# Altium schematic symbol library Sajad_Altium_Library.SchLib: 340 symbols (part 3 of 4)
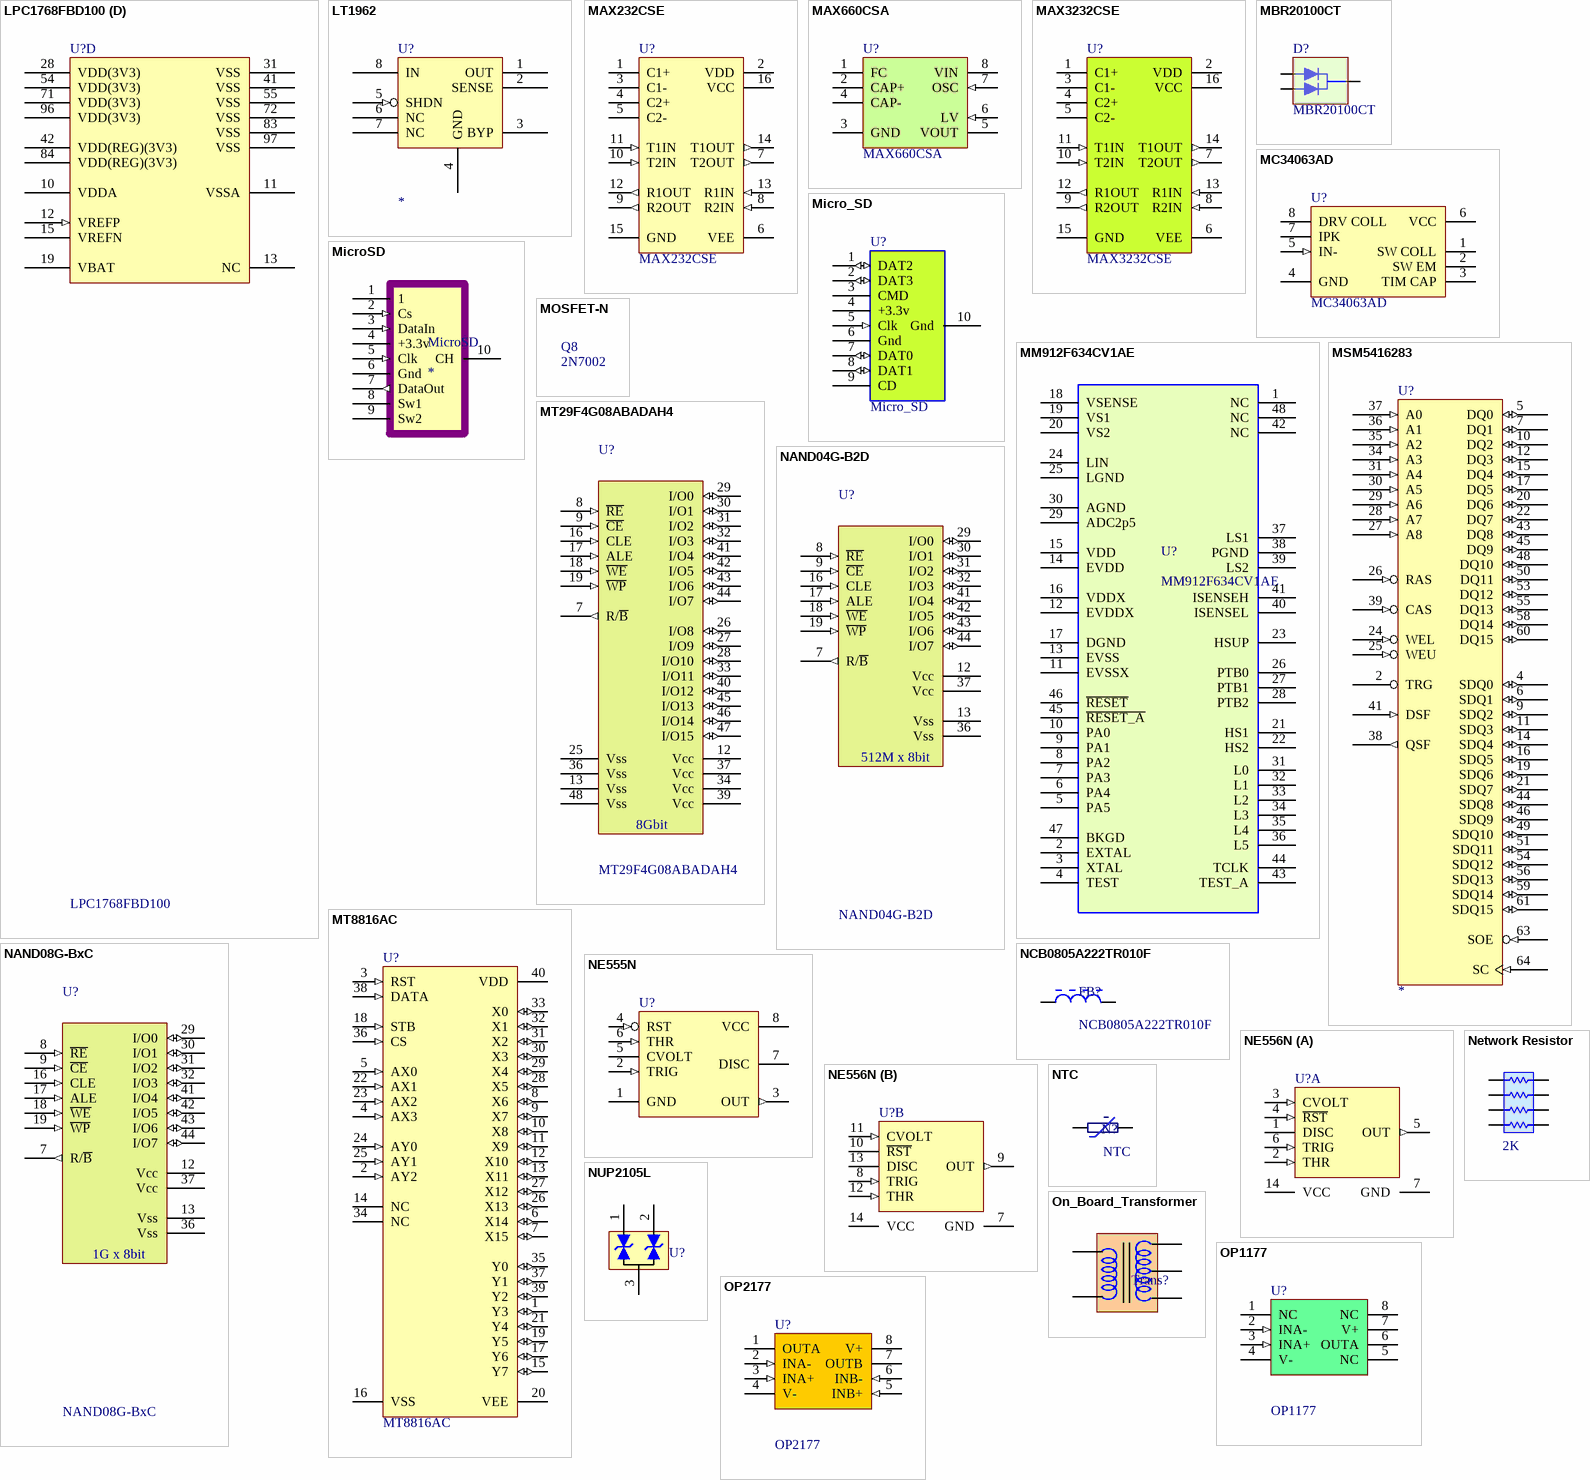
[diagram p19: symbols LPC1768FBD100 to OP2177]

## MT8816AC
designator U?
8 X 16 Analog Switch Array; Published: 8-Jun-2000; LatestRevisionDate: 17-Jul-2002; LatestRevisionNote: Re-released for DXP Platform.; DatasheetVersion: Issue 2 November 1988; PackageVersion: 1995; PackageReference: CDIP40; Publisher: Altium Limited; PackageDescription: DIP; 40 Leads; Row Spacing 15.24 mm; Pitch 2.54 mm; Code_JEDEC: MS-011-AC; ComponentLink1Description: Manufacturer Link; ComponentLink1URL: http://products.zarlink.com; ComponentLink2Description: Datasheet; ComponentLink2URL: http://assets.zarlink.com/DS/zarlink_MT8816_FEB_05.pdf
footprint DIP40 (DIP 40 pin)
pins: 1 Y3 (io), 2 AY2 (in), 3 RST (in), 4 AX3 (in), 5 AX0 (in), 6 X14 (io), 7 X15 (io), 8 X6 (io), 9 X7 (io), 10 X8 (io), 11 X9 (io), 12 X10 (io), 13 X11 (io), 14 NC, 15 Y7 (io), 16 VSS (power), 17 Y6 (io), 18 STB (in), 19 Y5 (io), 20 VEE (power), 21 Y4 (io), 22 AX1 (in), 23 AX2 (in), 24 AY0 (in), 25 AY1 (in), 26 X13 (io), 27 X12 (io), 28 X5 (io), 29 X4 (io), 30 X3 (io), 31 X2 (io), 32 X1 (io), 33 X0 (io), 34 NC, 35 Y0 (io), 36 CS (in), 37 Y1 (io), 38 DATA (in), 39 Y2 (io), 40 VDD (power)

## NAND04G-B2D
designator U?
4-Gbit, 8-Gbit, 2112-byte/1056-word page Nand Flash
footprint TSOP48 (Shrink Small Outline, Plastic, Thin; 48 Leads; Body Width 18.4 mm; Pitch 0.5 mm)
pins: 7 R/~{B} (out), 8 ~{RE} (in), 9 ~{CE} (in), 12 Vcc, 13 Vss, 16 CLE (in), 17 ALE (in), 18 ~{W}~{E} (in), 19 ~{W}~{P} (in), 29 I/O0 (io), 30 I/O1 (io), 31 I/O2 (io), 32 I/O3 (io), 36 Vss, 37 Vcc, 41 I/O4 (io), 42 I/O5 (io), 43 I/O6 (io), 44 I/O7 (io)
text: 512M x 8bit

## NAND08G-BxC
designator U?
8-Gbit, 2112-byte/1056-word page nand Flash
footprint TSOP48 (Shrink Small Outline, Plastic, Thin; 48 Leads; Body Width 18.4 mm; Pitch 0.5 mm)
pins: 7 R/~{B} (out), 8 ~{RE} (in), 9 ~{CE} (in), 12 Vcc, 13 Vss, 16 CLE (in), 17 ALE (in), 18 ~{W}~{E} (in), 19 ~{W}~{P} (in), 29 I/O0 (io), 30 I/O1 (io), 31 I/O2 (io), 32 I/O3 (io), 36 Vss, 37 Vcc, 41 I/O4 (io), 42 I/O5 (io), 43 I/O6 (io), 44 I/O7 (io)
text: 1G x 8bit

## NCB0805A222TR010F
designator FB?
Ferrite Chip Beads 2200ohm @ 100Mhz 0.75mOhm 100mA; Manufacturer: NIC Components; Website: http://www.findchips.com/avail?part=NCB0805A222TR010F
footprint 0805
pins: 1, 2 8

## NE555N
designator U?
General-Purpose Single Bipolar Timer; Published: 24-Aug-2001; LatestRevisionDate: 06-Jun-2005; LatestRevisionNote: Stylized 3D Model Added.; DatasheetVersion: Jul-1998; PackageReference: DIP8; Publisher: Altium Limited; PackageDescription: DIP; 8 Leads; Row Spacing 7.62 mm; Pitch 2.54 mm; Code_JEDEC: MO-001-AN; ComponentLink1Description: Manufacturer Link; ComponentLink1URL: http://www.st.com/; ComponentLink2Description: Datasheet; ComponentLink2URL: http://www.st.com/stonline/products/literature/ds/2182/ne555.pdf
footprint SO8
footprint DIP8 (DIP; 8 Leads; Row Spacing 7.62 mm; Pitch 2.54 mm)
pins: 1 GND (power), 2 TRIG (in), 3 OUT (out), 4 RST (in), 5 CVOLT, 6 THR (in), 7 DISC (oc), 8 VCC (power)

## NE556N
designator U?
General-Purpose Dual Bipolar Timer; Published: 24-Aug-2001; LatestRevisionDate: 06-Jun-2005; LatestRevisionNote: Stylized 3D Model Added.; DatasheetVersion: Jul-1998; PackageVersion: Jan-1997; PackageReference: DIP14; Publisher: Altium Limited; PackageDescription: DIP; 14 Leads; Row Spacing 7.62 mm; Pitch 2.54 mm; ComponentLink1Description: Manufacturer Link; ComponentLink1URL: http://www.st.com/; ComponentLink2Description: Datasheet; ComponentLink2URL: http://www.st.com/stonline/products/literature/ds/2183/ne556.pdf
footprint DIP14 (DIP; 14 Leads; Row Spacing 7.62 mm; Pitch 2.54 mm)
footprint SO14_M (SOIC, 14-Leads, Body 8.7x3.9mm, Pitch 1.27mm, IPC Low Density)
pins on every part: 7 GND (power), 14 VCC (power)
part A pins: 1 DISC (oc), 2 THR (in), 3 CVOLT (in), 4 ~{RST} (in), 5 OUT (out), 6 TRIG (in)
part B pins: 8 TRIG (in), 9 OUT (out), 10 ~{RST}, 11 CVOLT (in), 12 THR (in), 13 DISC (oc)

## Network Resistor
designator RN?, comment 2K
footprint Network Resistor 0603
pins: 1, 2, 3, 4, 5, 6, 7, 8

## NTC
designator N?
Published: 8-Jun-2000; LatestRevisionDate: 17-Jul-2002; LatestRevisionNote: Re-released for DXP Platform.; PackageReference: AXIAL-0.3; Publisher: Altium Limited
pins: 1, 2
text: -

## NUP2105L
designator U?  (value not drawn)
TVS Zener Diode
footprint SO-G3/C2.5
pins: 1, 2, 3
2 alternate drawings of the same symbol

## On_Board_Transformer
designator Trans?, comment Transformer  (value not drawn)
Inductor; Code_IEC: 1005; Published: 8-Jun-2000; LatestRevisionDate: 17-Jul-2002; LatestRevisionNote: Re-released for DXP Platform.; PackageReference: 0402-A; Publisher: Altium Limited; Code_JEITA: 0402
footprint Transformer (On Board Transformer)
pins: 1 (power), 5, 7, 8, 9

## OP1177
designator U?
Precision Low Noise, Low Input  Bias Current Operational Amplifiers; Link: http://javanelec.com/productsDetails.aspx?id=20666; Price: 38850 Rial
footprint SO8
pins: 1 NC, 2 INA- (in), 3 INA+ (in), 4 V- (power), 5 NC (power), 6 OUTA, 7 V+ (power), 8 NC (power)

## OP2177
designator U?
Precision Low Noise, Low Input  Bias Current Operational Amplifiers; Link: http://javanelec.com/productsDetails.aspx?id=20666; Price: 38850 Rial
footprint SO8
pins: 1 OUTA, 2 INA- (in), 3 INA+ (in), 4 V- (power), 5 INB+ (in), 6 INB- (in), 7 OUTB (power), 8 V+ (power)

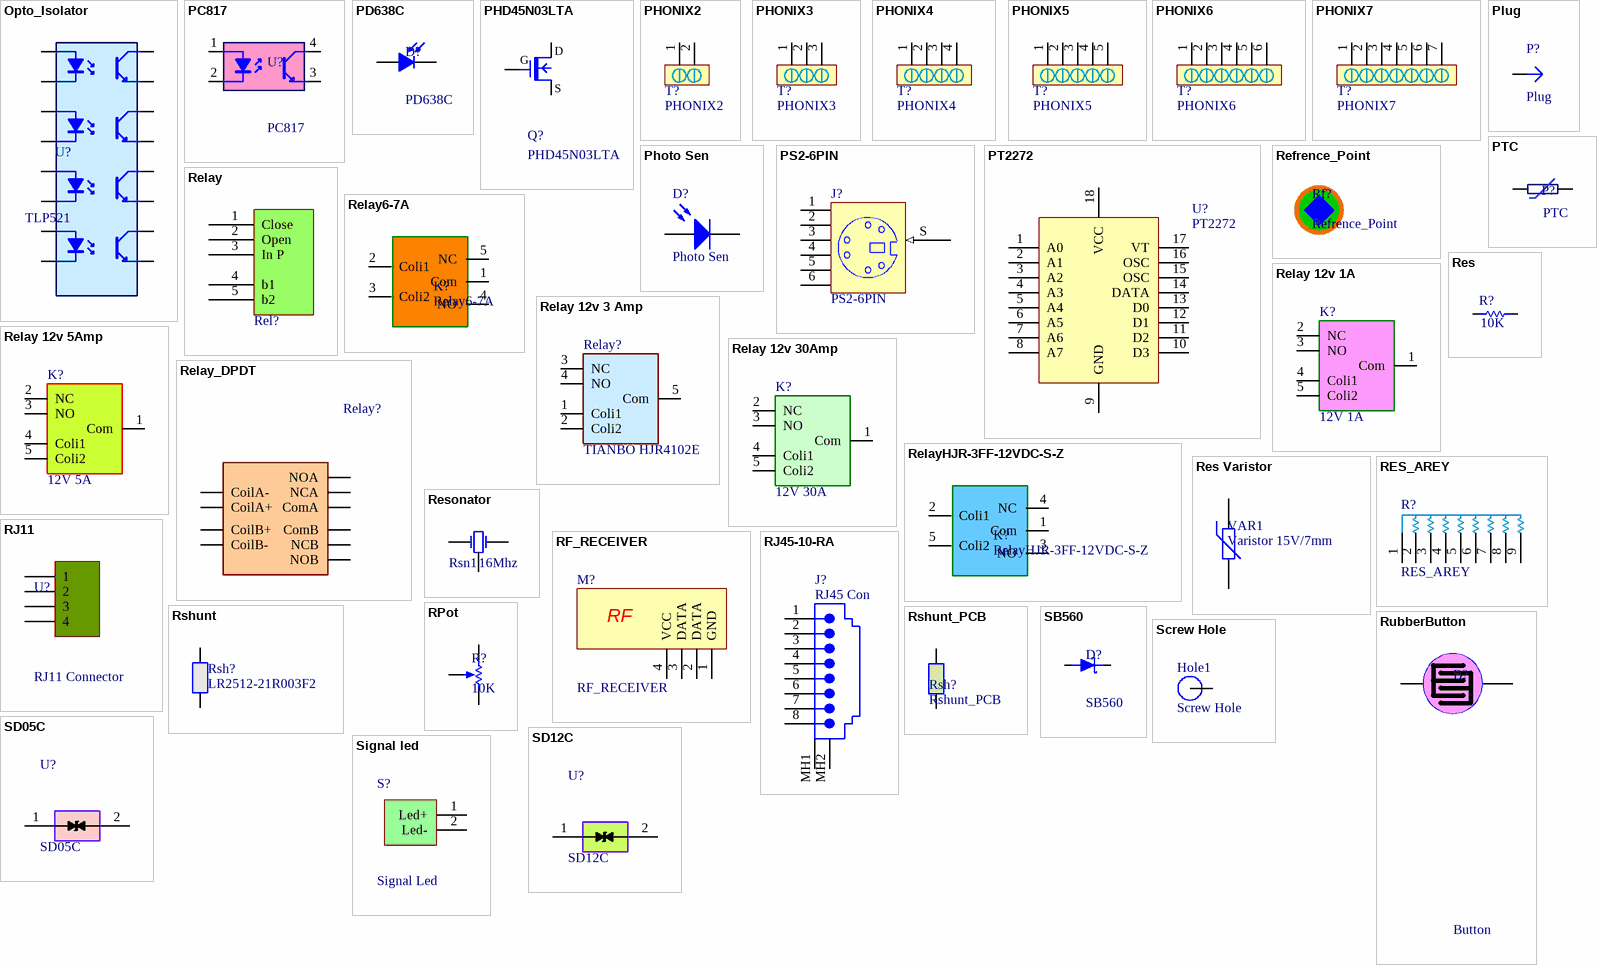
[diagram p11: symbols Opto_Isolator to Signal led]

## Opto_Isolator
designator U?, comment TLP521
Optoisolator
pins: 1 A "Anode", 2 K "Cathode", 3 A "Anode", 4 K "Cathode", 5 A "Anode", 6 K "Cathode", 7 A "Anode", 8 K "Cathode", 9 E "Emitter", 10 C "Collector", 11 E "Emitter", 12 C "Collector", 13 E "Emitter", 14 C "Collector", 15 E "Emitter", 16 C "Collector"

## PC817
designator U?
DIP 4pin General Purpose  Photocoupler
footprint DIP-4 (DIP; 4 Leads; Row Spacing 7.62 mm; Pitch 2.54 mm)
pins: 1 A "Anode", 2 K "Cathode", 3 E "Emitter", 4 C "Collector"

## PD638C
designator D?
2.75 ×5.25 mm Silicon PIN Photodiode
footprint PD638C (2.75 ×5.25 mm Silicon PIN Photodiode)
pins: 1 A, 2 K

## PHD45N03LTA
designator Q?
25 A N-channel enhancement mode field-effect transistor
footprint TO-252; pin to pad 2>4
pins: 1 G, 2 D, 3 S

## PHONIX2
designator T?
footprint PHONIX2
pins: 1, 2

## PHONIX3
designator T?
footprint PHONIX3
pins: 1, 2, 3

## PHONIX4
designator T?
footprint PHONIX4
pins: 1, 2, 3, 4

## PHONIX5
designator T?
footprint PHONIX5
pins: 1, 2, 3, 4, 5

## PHONIX6
designator T?
footprint PHONIX6
pins: 1, 2, 3, 4, 5, 6

## PHONIX7
designator T?
footprint PHONIX7
pins: 1, 2, 3, 4, 5, 6, 7

## Photo Sen
designator D?
Photosensitive Diode; Published: 24-Mar-1999; LatestRevisionDate: 17-Jul-2002; LatestRevisionNote: Re-released for DXP Platform.; PackageReference: PIN2; Publisher: Altium Limited
footprint PIN2 (Photosensitive Diode; 2 Leads)
pins: 1 A, 2 K

## Plug
designator P?
LatestRevisionDate: 17-Jul-2002; LatestRevisionNote: Re-released for DXP Platform.; Publisher: Altium Limited
pins: 1

## PS2-6PIN
designator J?
6 Pin Through Hole PS2 Socket (Kycon P/N); Published: 17-Dec-2003; Publisher: Altium Limited; ComponentLink1Description: Manufacturer Link; ComponentLink1URL: http://www.oupiin.com/prodindx.html#Headers
footprint PS2-6PIN (PS2 Socket, 6 Pin, Through Hole)
pins: 1, 2, 3, 4, 5, 6, S (in)

## PT2272
designator U?
footprint DIP18
pins: 1 A0, 2 A1, 3 A2, 4 A3, 5 A4, 6 A5, 7 A6, 8 A7, 9 GND, 10 D3, 11 D2, 12 D1, 13 D0, 14 DATA, 15 OSC, 16 OSC, 17 VT, 18 VCC

## PTC
designator P?
Published: 8-Jun-2000; LatestRevisionDate: 17-Jul-2002; LatestRevisionNote: Re-released for DXP Platform.; PackageReference: AXIAL-0.3; Publisher: Altium Limited
footprint PTC
pins: 1, 2

## Refrence_Point
designator Rf?  (no BOM)
Refrence point for assembling pcb
footprint Refrence_Point (Refrence Point for Assembling Pcb)
footprint Refrence_Point 2 (Refrence Point for Assembling Pcb)

## Relay
designator Rel?, comment G2RL1E  (value not drawn)
Omron G2RL1E 12v 16A Relay
footprint Relay
pins: 1 Close, 2 Open, 3 In P, 4 b1, 5 b2

## Relay6-7A
designator K?
Single-Pole Dual-Throw Relay
footprint Relay Mini Milon
pins: 1 Com (power), 2 Coli1 (power), 3 Coli2 (power), 4 NO (power), 5 NC (power)

## Relay 12v 1A
designator K?, comment 12V 1A
12V 1A RELAY
footprint RELAY_12_CMD
pins: 1 Com (power), 2 NC (power), 3 NO (power), 4 Coli1 (power), 5 Coli2 (power)

## Relay 12v 3 Amp
designator Relay?, comment TIANBO HJR4102E
TIANBO 3A 12V RELAY
footprint TIANBO HJR4102E (TIANBO HJR4102E 12 v 3 A relay)
pins: 1 Coli1 (power), 2 Coli2 (power), 3 NC (power), 4 NO (power), 5 Com (power)

## Relay 12v 5Amp
designator K?, comment 12V 5A
12V 5A RELAY
footprint RELAY_12_10
pins: 1 Com (power), 2 NC (power), 3 NO (power), 4 Coli1 (power), 5 Coli2 (power)

## Relay 12v 30Amp
designator K?, comment 12V 30A
12V 30A RELAY
footprint RELAY_12_30
pins: 1 Com (power), 2 NC (power), 3 NO (power), 4 Coli1 (power), 5 Coli2 (power)

## Relay_DPDT
designator Relay?, comment JQC-16F  (value not drawn)
footprint RELAY_DOUBLE (JQC-16F)
pins: 1 CoilA+, 2 CoilA-, 3 NOA (power), 4 NCA (power), 5 ComA (power), 6 CoilB+, 7 CoilB-, 8 NOB (power), 9 NCB (power), 10 ComB (power)

## RelayHJR-3FF-12VDC-S-Z
designator K?
HJR-3FF-12VDC-S-Z
footprint HJR-3FF-12VDC-S-Z
pins: 1 Com (power), 2 Coli1 (power), 3 NO (power), 4 NC (power), 5 Coli2 (power)

## Res
designator R?, comment 10K
Resistor; Published: 8-Jun-2000; LatestRevisionDate: 17-Jul-2002; LatestRevisionNote: Re-released for DXP Platform.; PackageReference: AXIAL-0.3; Publisher: Altium Limited
footprint 0805
footprint 0603
footprint 1206_Res (1206 footprint)
footprint 0805 - big
footprint AXIAL-0.4 res (Axial Device, Thru-Hole; 2 Leads; 0.4 in Pin Spacing)
footprint RES20-16.5X6.5 (Resistor, Axial; Body 16.5 x 6.5 mm (LxDia. max), Lead Dia. 0.85 mm (max))
footprint 2512 (Footprint not found)
footprint 1225
footprint RES20 (Resistor, Axial; Body 16.5 x 6.5 mm (LxDia. max), Lead Dia. 0.85 mm (max))
footprint 0603 -sm
footprint AXIAL_KHAM-1W
footprint 0805_Medium
footprint RES_5W
pins: 1, 2

## Res Varistor
designator VAR1, comment Varistor 15V/7mm
Varistor (Voltage-Sensitive Resistor); Published: 24-Mar-1999; LatestRevisionDate: 29-May-2009; LatestRevisionNote: IPC-7351 Footprint Added.; PackageVersion: Mar-2003; PackageReference: 6-0805; Publisher: Altium Limited; PackageDescription: Chip Resistor 0805 Case Size; Code_IPC: RESC2012
footprint NTC0.3/.7
footprint 6-0805_L (Chip Resistor, Body 2.0x1.2mm, IPC High Density)
footprint 6-0805_M (Chip Resistor, Body 2.0x1.2mm, IPC Low Density)
pins: 1, 2

## RES_AREY
designator R?
footprint SIP9
pins: 1, 2, 3, 4, 5, 6, 7, 8, 9

## Resonator
designator Rsn1, comment 16Mhz
footprint RESONATOR
pins: 1 OSC1, 2 Gnd, 3 OSC2

## RF_RECEIVER
designator M?
footprint RF_RX
footprint RF_RX2
pins: 1 GND, 2 DATA, 3 DATA, 4 VCC
text: RF

## RJ11
designator U?, comment RJ11 Connector
RJ11; LatestRevisionDate: 17-Jul-2002; LatestRevisionNote: Re-released for DXP Platform.; Publisher: Altium Limited
footprint RJ11 (RJ11 CONNECTOR)
pins: 1, 2, 3, 4

## RJ45-10-RA
designator J?, comment RJ45 Con
Right Angle, Standard Profile, External Shield PCB Jack; Design Item Id: CON-RA-RJ45-95122-2881
footprint RJ-45 Connector (LAN Conector)
pins: 1, 2, 3, 4, 5, 6, 7, 8, MH1 Shield, MH2 Shield

## RPot
designator R?, comment 10K
Potentiometer
footprint SMD Pot (SMD Potentiometer)
footprint MultiTurn Pot (MultiTurn Potentiometer)
footprint Connector1x3 (Connector; Header; 3 Position)
footprint Potentiometer (potentiometer standing)
footprint POT4MM-2
pins: 1, 2, 3

## Rshunt
designator Rsh?, comment LR2512-21R003F2
Published: 8-Jun-2000; LatestRevisionDate: 17-Jul-2002; LatestRevisionNote: Re-released for DXP Platform.; PackageReference: AXIAL-0.3; Publisher: Altium Limited
footprint LR2512-21R003F2
pins: 1, 2

## Rshunt_PCB
designator Rsh?
Value: 3mOhm
footprint PCB_Shunt (3miliOhm)
pins: 1, 2

## RubberButton
designator B?, comment Button
Rubber button
footprint Button_Pad
pins: 1, 2

## SB560
designator D?
5 Amp Schottky Diode
footprint DO-201AD (Diode, Axial; Body 9.5 x 5.6 mm (LxDia. max), Lead Dia. 1.32 mm (max))
pins: 1 A, 2 K

## Screw Hole
designator Hole1  (no BOM)
footprint Hole_3mm-5mm
footprint Hole_4mm-5.5mm
pins: 1
2 alternate drawings of the same symbol

## SD05C
designator U?
Single Line TVS Diode for ESD  Protection
footprint 0805_MediumCap
pins: 1 "Speed", 2 "Speed"

## SD12C
designator U?
Single Line TVS Diode for ESD  Protection
footprint 0805_MediumCap
pins: 1 "Speed", 2 "Speed"

## Signal led
designator S?, comment Signal Led
footprint Signal LED (Signal_led)
pins: 1 Led+, 2 Led-

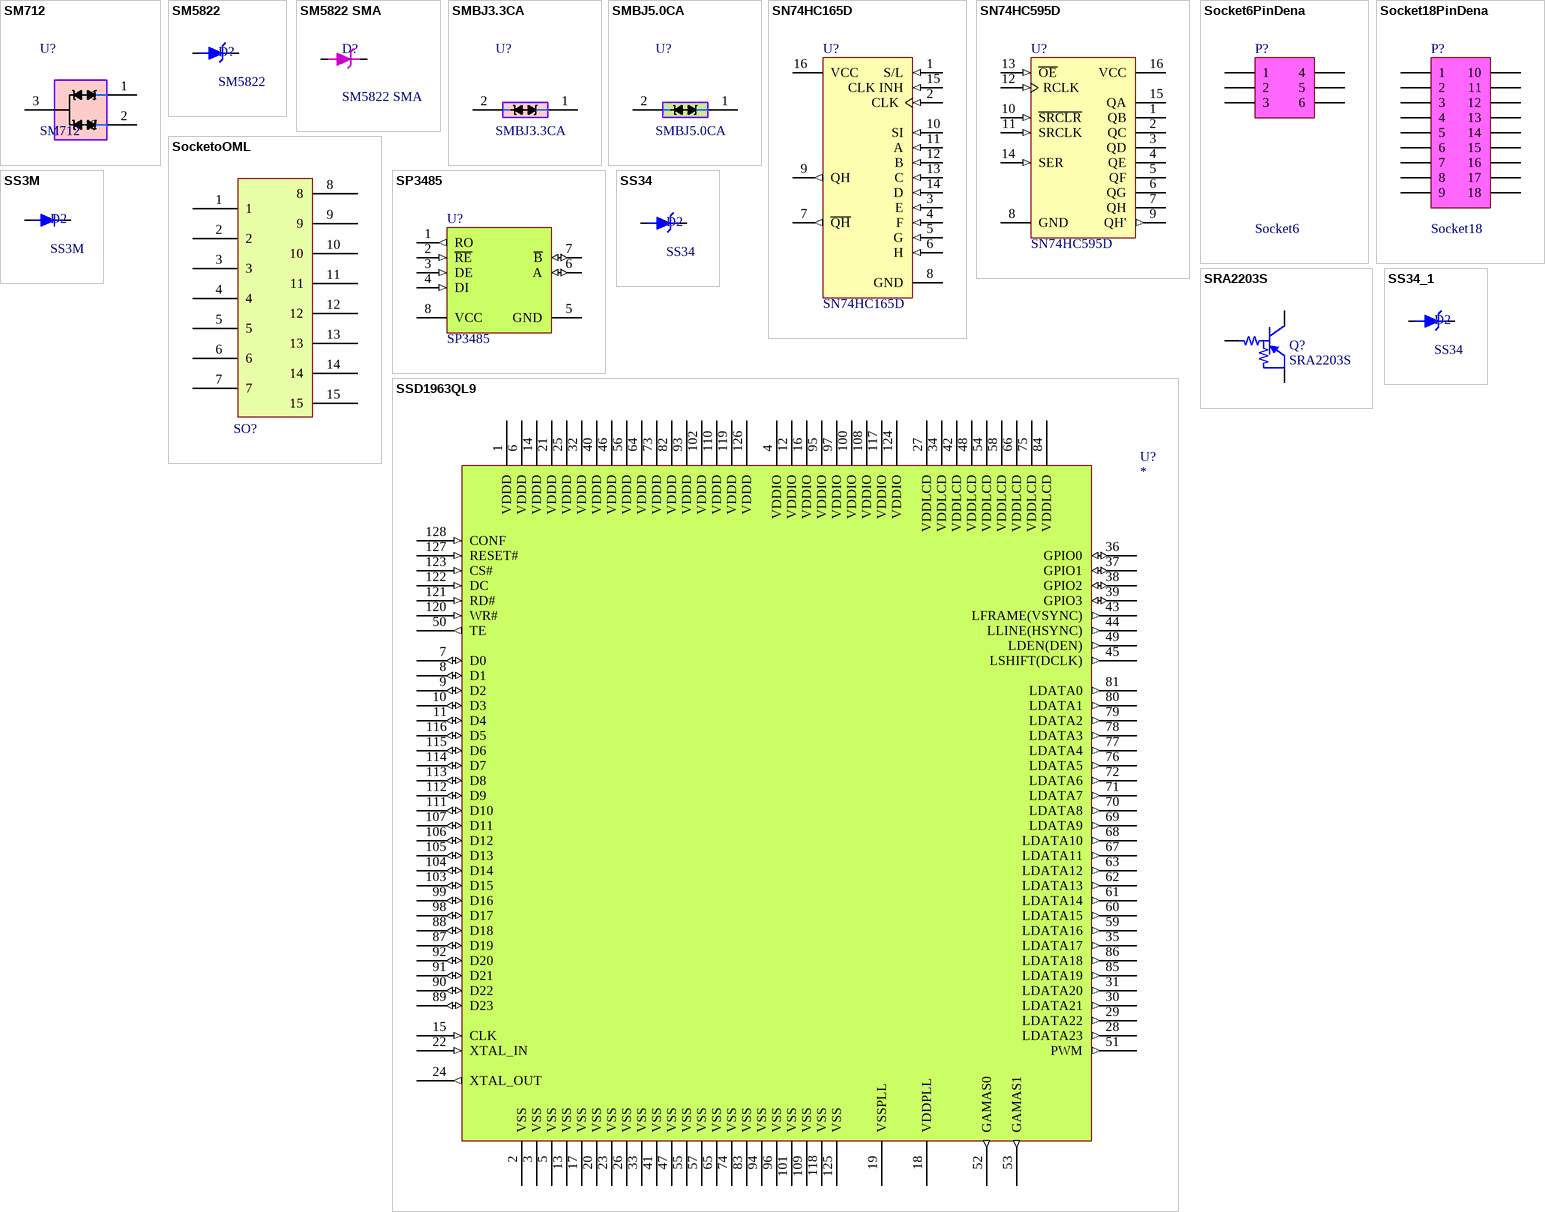
[diagram p12: symbols SM712 to SSD1963QL9]

## SM712
designator U?
TVS Diode for RS485; Link: http://javanelec.com/productsDetails.aspx?id=1540
footprint SOT23_
pins: 1 "Speed", 2 "Speed", 3 "Speed"

## SM5822
designator D?
3A Schottkey diode 40V
pins: 1 A, 2 K

## SM5822 SMA
designator D?
3 Amp Schottky Rectifier 40V; Link: http://www.javanelec.com/Shops/Index?searchFilter=ss34
footprint DO-214AA (DO-214AA (SMB))
pins: 1 A, 2 K

## SMBJ3.3CA
designator U?
TVS Diode for 3.3v; Link: javanElectronic; Price: 2625 Rial
footprint DO-214AC (1N4001-7 SMD DIODE)
pins: 1 "Speed", 2 "Speed"

## SMBJ5.0CA
designator U?
TVS Diode for 5v; Link: javanElectronic; Price: 2625 Rial
footprint DO-214AC (1N4001-7 SMD DIODE)
pins: 1 "Speed", 2 "Speed"

## SN74HC165D
designator U?
8-Bit Parallel-Load Shift Register; Published: 8-Jun-2000; LatestRevisionDate: 13-Apr-2006; LatestRevisionNote: IPC-7351 Footprint Added.; DatasheetVersion: May-1997; PackageVersion: Jan-1998; PackageReference: D016; Publisher: Altium Limited; PackageDescription: 16-Pin Small Outline Integrated Circuit 1.27 mm Pitch; Code_IPC: SOIC127P600-16; ComponentLink1Description: Manufacturer Link; ComponentLink1URL: http://www.ti.com/; ComponentLink2Description: Datasheet; ComponentLink2URL: http://www-s.ti.com/sc/ds/sn74hc165.pdf
footprint SO16
pins: 1 S/L (in), 2 CLK (in), 3 E (in), 4 F (in), 5 G (in), 6 H (in), 7 ~{QH} (out), 8 GND (power), 9 QH (out), 10 SI (in), 11 A (in), 12 B (in), 13 C (in), 14 D (in), 15 CLK INH (in), 16 VCC (power)

## SN74HC595D
designator U?
8-Bit Shift Register with 3-State Output Registers; Published: 8-Jun-2000; LatestRevisionDate: 13-Apr-2006; LatestRevisionNote: IPC-7351 Footprint Added.; DatasheetVersion: May-1997; PackageVersion: Jan-1998; PackageReference: D016; Publisher: Altium Limited; PackageDescription: 16-Pin Small Outline Integrated Circuit 1.27 mm Pitch; Code_IPC: SOIC127P600-16; ComponentLink1Description: Manufacturer Link; ComponentLink1URL: http://www.ti.com/; ComponentLink2Description: Datasheet; ComponentLink2URL: http://www-s.ti.com/sc/ds/sn74hc595.pdf
footprint SO16
pins: 1 QB (hiz), 2 QC (hiz), 3 QD (hiz), 4 QE (hiz), 5 QF (hiz), 6 QG (hiz), 7 QH (hiz), 8 GND (power), 9 QH' (out), 10 ~{SRCLR} (in), 11 SRCLK (in), 12 RCLK (in), 13 ~{OE} (in), 14 SER (in), 15 QA (hiz), 16 VCC (power)

## Socket6PinDena
designator P?, comment Socket6
Socket 6 Pin for Dena & Samand
footprint Socket6Pin (for Dena & Samand Mirror)
pins: 1, 2, 3, 4, 5, 6

## Socket18PinDena
designator P?, comment Socket18
Socket 18 Pin for Dena & Samand
footprint Socket18Pin (for Dena & Samand Door)
pins: 1, 2, 3, 4, 5, 6, 7, 8, 9, 10, 11, 12, 13, 14, 15, 16, 17, 18

## SocketoOML
designator SO?, comment Socket  (value not drawn)
footprint SocketoOML
pins: 1, 2, 3, 4, 5, 6, 7, 8, 9, 10, 11, 12, 13, 14, 15

## SP3485
designator U?
+3.3V Low Power Half-Duplex RS-485   Transceiver with 10Mbps Data Rate; PartNumber: DS485M; Manufacturer: National Semiconductor; PackageTopMarking: NSZXTT*DS485*M; PowerWise: N; CompType: Interface IC; Published: 4-Dec-2008; DatasheetVersion: Jul-1998; PackageVersion: revM, May-2009; PackageReference: M08A; Publisher: Altium Limited; PackageDescription: SOIC Narrow, 4.9 x 3.9 x 1.45mm, 8 Lead, 1.27mm Pitch; Supplier 1: Farnell; Supplier Part Number 1: 9490078; RoHS: N; PinCount: 8; Code_JEDEC: MS-012-AA; Code_IPC: SOIC127P600-8; ComponentLink1Description: DS485 Datasheet; ComponentLink1URL: http://www.national.com/ds/DS/DS485.pdf; ComponentLink2Description: DS485 Web Page; ComponentLink2URL: http://www.national.com/pf/DS/DS485.html; ComponentLink3Description: M08A Package Page; ComponentLink3URL: http://www.national.com/packaging/folders/m08a.html
footprint SO8
pins: 1 RO (out), 2 ~{RE} (in), 3 DE (in), 4 DI (in), 5 GND (power), 6 A (io), 7 ~{B} (io), 8 VCC (power)

## SRA2203S
designator Q?
PNP Silicon Transistor With built-in bias resistors
footprint SOT23_
pins: 1 B, 2 E, 3 C

## SS3M
designator D2
3A Schottkey diode
footprint DIODE - SMC
pins: 1 A, 2 K

## SS34
designator D2
3A Schottkey diode
footprint DIODE - SMC
pins: 1 A, 2 K

## SS34_1
designator D2, comment SS34
3A Schottkey diode
footprint DIODE - SMC
pins: 1 A, 2 K

## SSD1963QL9
designator U?
SSD1963QL9
footprint LQFP128
pins: 1 VDDD, 2 VSS, 3 VSS, 4 VDDIO, 5 VSS, 6 VDDD, 7 D0 (io), 8 D1 (io), 9 D2 (io), 10 D3 (io), 11 D4 (io), 12 VDDIO, 13 VSS, 14 VDDD, 15 CLK (in), 16 VDDIO, 17 VSS, 18 VDDPLL, 19 VSSPLL, 20 VSS, 21 VDDD, 22 XTAL_IN (in), 23 VSS, 24 XTAL_OUT (out), 25 VDDD, 26 VSS, 27 VDDLCD, 28 LDATA23 (out), 29 LDATA22 (out), 30 LDATA21 (out), 31 LDATA20 (out), 32 VDDD, 33 VSS, 34 VDDLCD, 35 LDATA17 (out), 36 GPIO0 (io), 37 GPIO1 (io), 38 GPIO2 (io), 39 GPIO3 (io), 40 VDDD, 41 VSS, 42 VDDLCD, 43 LFRAME(VSYNC) (out), 44 LLINE(HSYNC) (out), 45 LSHIFT(DCLK) (out), 46 VDDD, 47 VSS, 48 VDDLCD, 49 LDEN(DEN) (out), 50 TE (out), 51 PWM (out), 52 GAMAS0 (out), 53 GAMAS1 (out), 54 VDDLCD, 55 VSS, 56 VDDD, 57 VSS, 58 VDDLCD, 59 LDATA16 (out), 60 LDATA15 (out), 61 LDATA14 (out), 62 LDATA13 (out), 63 LDATA12 (out), 64 VDDD, 65 VSS, 66 VDDLCD, 67 LDATA11 (out), 68 LDATA10 (out), 69 LDATA9 (out), 70 LDATA8 (out), 71 LDATA7 (out), 72 LDATA6 (out), 73 VDDD, 74 VSS, 75 VDDLCD, 76 LDATA5 (out), 77 LDATA4 (out), 78 LDATA3 (out), 79 LDATA2 (out), 80 LDATA1 (out), 81 LDATA0 (out), 82 VDDD, 83 VSS, 84 VDDLCD, 85 LDATA19 (out), 86 LDATA18 (out), 87 D19 (io), 88 D18 (io), 89 D23 (io), 90 D22 (io), 91 D21 (io), 92 D20 (io), 93 VDDD, 94 VSS, 95 VDDIO, 96 VSS, 97 VDDIO, 98 D17 (io), 99 D16 (io), 100 VDDIO, 101 VSS, 102 VDDD, 103 D15 (io), 104 D14 (io), 105 D13 (io), 106 D12 (io), 107 D11 (io), 108 VDDIO, 109 VSS, 110 VDDD, 111 D10 (io), 112 D9 (io), 113 D8 (io), 114 D7 (io), 115 D6 (io), 116 D5 (io), 117 VDDIO, 118 VSS, 119 VDDD, 120 WR# (in), 121 RD# (in), 122 DC (in), 123 CS# (in), 124 VDDIO, 125 VSS, 126 VDDD, 127 RESET# (in), 128 CONF (in)

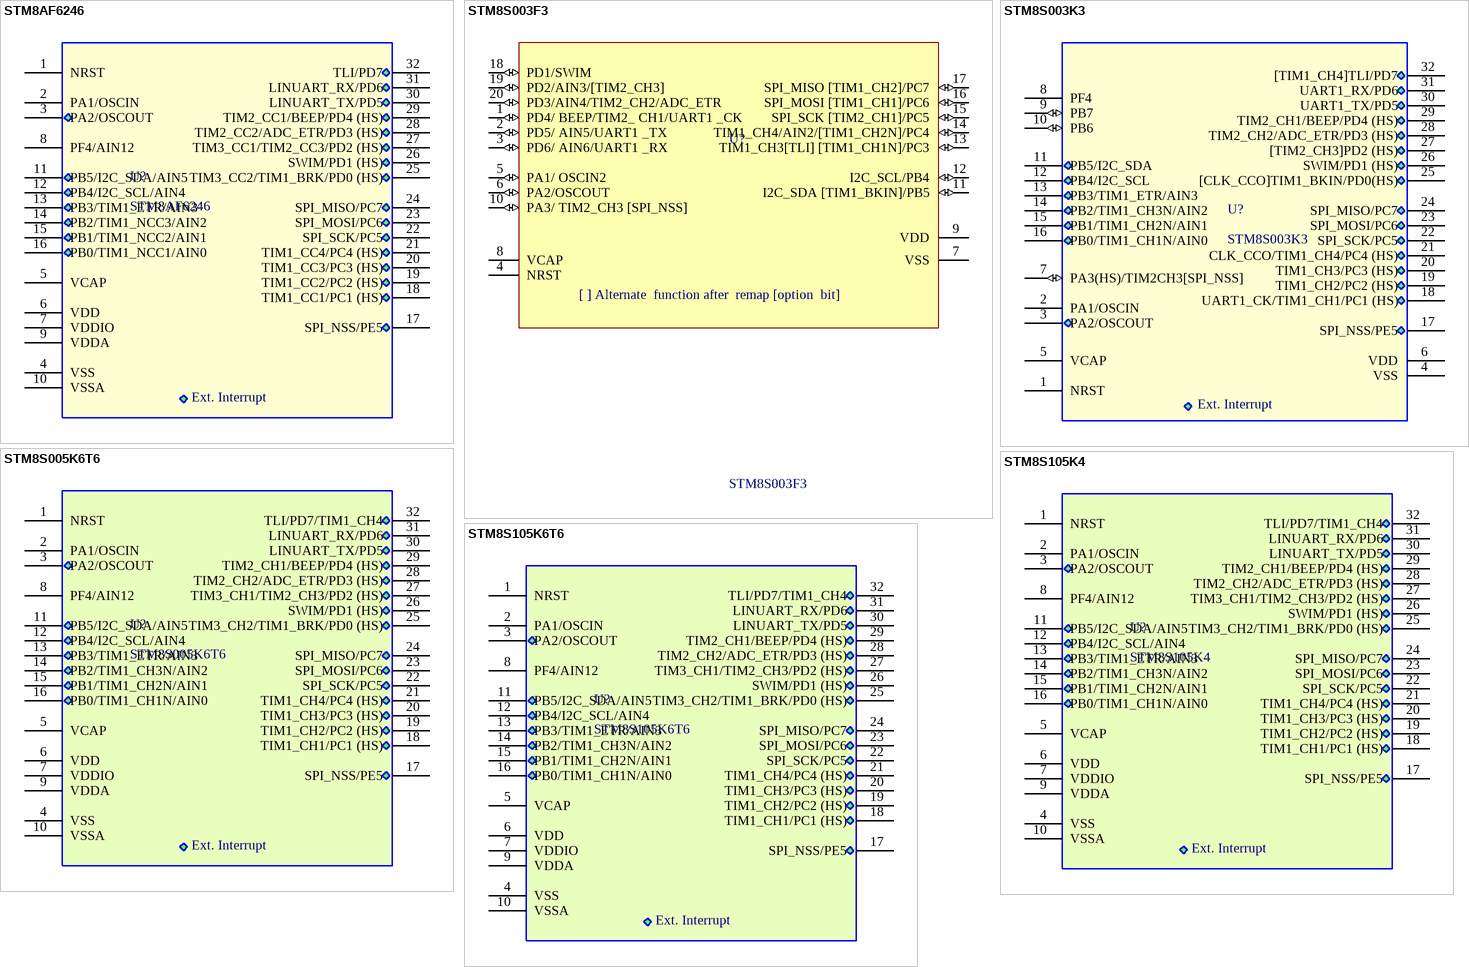
[diagram p13: symbols STM8AF6246 to STM8S105K6T6]

## STM8AF6246
designator U?
footprint LQFP32 (32-Pin Thin Quad Flat Pack 0.8 mm Pitch)
pins: 1 NRST, 2 PA1/OSCIN, 3 PA2/OSCOUT, 4 VSS, 5 VCAP, 6 VDD, 7 VDDIO, 8 PF4/AIN12, 9 VDDA, 10 VSSA, 11 PB5/I2C_SDA/AIN5, 12 PB4/I2C_SCL/AIN4, 13 PB3/TIM1_ETR/AIN3, 14 PB2/TIM1_NCC3/AIN2, 15 PB1/TIM1_NCC2/AIN1, 16 PB0/TIM1_NCC1/AIN0, 17 SPI_NSS/PE5, 18 TIM1_CC1/PC1 (HS), 19 TIM1_CC2/PC2 (HS), 20 TIM1_CC3/PC3 (HS), 21 TIM1_CC4/PC4 (HS), 22 SPI_SCK/PC5, 23 SPI_MOSI/PC6, 24 SPI_MISO/PC7, 25 TIM3_CC2/TIM1_BRK/PD0 (HS), 26 SWIM/PD1 (HS), 27 TIM3_CC1/TIM2_CC3/PD2 (HS), 28 TIM2_CC2/ADC_ETR/PD3 (HS), 29 TIM2_CC1/BEEP/PD4 (HS), 30 LINUART_TX/PD5, 31 LINUART_RX/PD6, 32 TLI/PD7
text: Ext. Interrupt

## STM8S003F3
designator U?
8-Bit ST Microcontroller with 8K Bytes Flash
footprint TSSOP 20 (20-pin, 4.40 mm body, 0.65 mm pitch)
pins: 1 PD4/ BEEP/TIM2_ CH1/UART1 _CK (io), 2 PD5/ AIN5/UART1 _TX (io), 3 PD6/ AIN6/UART1 _RX (io), 4 NRST, 5 PA1/ OSCIN2 (io), 6 PA2/OSCOUT (io), 7 VSS, 8 VCAP, 9 VDD, 10 PA3/ TIM2_CH3 [SPI_NSS] (io), 11 I2C_SDA [TIM1_BKIN]/PB5 (io), 12 I2C_SCL/PB4 (io), 13 TIM1_CH3[TLI] [TIM1_CH1N]/PC3 (io), 14 TIM1_CH4/AIN2/[TIM1_CH2N]/PC4 (io), 15 SPI_SCK [TIM2_CH1]/PC5 (io), 16 SPI_MOSI [TIM1_CH1]/PC6 (io), 17 SPI_MISO [TIM1_CH2]/PC7 (io), 18 PD1/SWIM (io), 19 PD2/AIN3/[TIM2_CH3] (io), 20 PD3/AIN4/TIM2_CH2/ADC_ETR (io)
text: [ ] Alternate  function after  remap [option  bit]

## STM8S003K3
designator U?
Value line, 16 MHz STM8S 8-bit MCU, 8 Kbytes Flash, 128 bytes  data EEPROM, 10-bit ADC, 3 timers, UART, SPI, I2C
footprint LQFP32 (32-Pin Thin Quad Flat Pack 0.8 mm Pitch)
pins: 1 NRST, 2 PA1/OSCIN, 3 PA2/OSCOUT, 4 VSS, 5 VCAP, 6 VDD, 7 PA3(HS)/TIM2CH3[SPI_NSS] (io), 8 PF4, 9 PB7 (io), 10 PB6 (io), 11 PB5/I2C_SDA, 12 PB4/I2C_SCL, 13 PB3/TIM1_ETR/AIN3, 14 PB2/TIM1_CH3N/AIN2, 15 PB1/TIM1_CH2N/AIN1, 16 PB0/TIM1_CH1N/AIN0, 17 SPI_NSS/PE5, 18 UART1_CK/TIM1_CH1/PC1 (HS), 19 TIM1_CH2/PC2 (HS), 20 TIM1_CH3/PC3 (HS), 21 CLK_CCO/TIM1_CH4/PC4 (HS), 22 SPI_SCK/PC5, 23 SPI_MOSI/PC6, 24 SPI_MISO/PC7, 25 [CLK_CCO]TIM1_BKIN/PD0(HS), 26 SWIM/PD1 (HS), 27 [TIM2_CH3]PD2 (HS), 28 TIM2_CH2/ADC_ETR/PD3 (HS), 29 TIM2_CH1/BEEP/PD4 (HS), 30 UART1_TX/PD5, 31 UART1_RX/PD6, 32 [TIM1_CH4]TLI/PD7
text: Ext. Interrupt

## STM8S005K6T6
designator U?
MCU 8-bit 32KB Flash 16 MHz STM8 LQFP32; FindsChip.com: http://www.findchips.com/search/STM8S005k6t6; Price: 0.7$
footprint LQFP32 (32-Pin Thin Quad Flat Pack 0.8 mm Pitch)
pins: 1 NRST, 2 PA1/OSCIN, 3 PA2/OSCOUT, 4 VSS, 5 VCAP, 6 VDD, 7 VDDIO, 8 PF4/AIN12, 9 VDDA, 10 VSSA, 11 PB5/I2C_SDA/AIN5, 12 PB4/I2C_SCL/AIN4, 13 PB3/TIM1_ETR/AIN3, 14 PB2/TIM1_CH3N/AIN2, 15 PB1/TIM1_CH2N/AIN1, 16 PB0/TIM1_CH1N/AIN0, 17 SPI_NSS/PE5, 18 TIM1_CH1/PC1 (HS), 19 TIM1_CH2/PC2 (HS), 20 TIM1_CH3/PC3 (HS), 21 TIM1_CH4/PC4 (HS), 22 SPI_SCK/PC5, 23 SPI_MOSI/PC6, 24 SPI_MISO/PC7, 25 TIM3_CH2/TIM1_BRK/PD0 (HS), 26 SWIM/PD1 (HS), 27 TIM3_CH1/TIM2_CH3/PD2 (HS), 28 TIM2_CH2/ADC_ETR/PD3 (HS), 29 TIM2_CH1/BEEP/PD4 (HS), 30 LINUART_TX/PD5, 31 LINUART_RX/PD6, 32 TLI/PD7/TIM1_CH4
text: Ext. Interrupt

## STM8S105K4
designator U?
MCU 8-bit 16KB Flash 16 MHz STM8 LQFP32 EEPROM; Javan Electronic: http://www.kavirelectronic.ir/eshop/%D9%85%DB%8C%DA%A9%D8%B1%D9%88%DA%A9%D9%86%D8%AA%D8%B1%D9%84%D8%B1-stm8/1200232--stm8s105k4t6c-.html; Price: 3900 toman; FindsChip Link: http://www.findchips.com/search/STM8S105K4T6C
footprint LQFP32 (32-Pin Thin Quad Flat Pack 0.8 mm Pitch)
pins: 1 NRST, 2 PA1/OSCIN, 3 PA2/OSCOUT, 4 VSS, 5 VCAP, 6 VDD, 7 VDDIO, 8 PF4/AIN12, 9 VDDA, 10 VSSA, 11 PB5/I2C_SDA/AIN5, 12 PB4/I2C_SCL/AIN4, 13 PB3/TIM1_ETR/AIN3, 14 PB2/TIM1_CH3N/AIN2, 15 PB1/TIM1_CH2N/AIN1, 16 PB0/TIM1_CH1N/AIN0, 17 SPI_NSS/PE5, 18 TIM1_CH1/PC1 (HS), 19 TIM1_CH2/PC2 (HS), 20 TIM1_CH3/PC3 (HS), 21 TIM1_CH4/PC4 (HS), 22 SPI_SCK/PC5, 23 SPI_MOSI/PC6, 24 SPI_MISO/PC7, 25 TIM3_CH2/TIM1_BRK/PD0 (HS), 26 SWIM/PD1 (HS), 27 TIM3_CH1/TIM2_CH3/PD2 (HS), 28 TIM2_CH2/ADC_ETR/PD3 (HS), 29 TIM2_CH1/BEEP/PD4 (HS), 30 LINUART_TX/PD5, 31 LINUART_RX/PD6, 32 TLI/PD7/TIM1_CH4
text: Ext. Interrupt

## STM8S105K6T6
designator U?
MCU 8-bit 32KB Flash 16 MHz STM8 LQFP32 EEPROM
footprint LQFP32 (32-Pin Thin Quad Flat Pack 0.8 mm Pitch)
pins: 1 NRST, 2 PA1/OSCIN, 3 PA2/OSCOUT, 4 VSS, 5 VCAP, 6 VDD, 7 VDDIO, 8 PF4/AIN12, 9 VDDA, 10 VSSA, 11 PB5/I2C_SDA/AIN5, 12 PB4/I2C_SCL/AIN4, 13 PB3/TIM1_ETR/AIN3, 14 PB2/TIM1_CH3N/AIN2, 15 PB1/TIM1_CH2N/AIN1, 16 PB0/TIM1_CH1N/AIN0, 17 SPI_NSS/PE5, 18 TIM1_CH1/PC1 (HS), 19 TIM1_CH2/PC2 (HS), 20 TIM1_CH3/PC3 (HS), 21 TIM1_CH4/PC4 (HS), 22 SPI_SCK/PC5, 23 SPI_MOSI/PC6, 24 SPI_MISO/PC7, 25 TIM3_CH2/TIM1_BRK/PD0 (HS), 26 SWIM/PD1 (HS), 27 TIM3_CH1/TIM2_CH3/PD2 (HS), 28 TIM2_CH2/ADC_ETR/PD3 (HS), 29 TIM2_CH1/BEEP/PD4 (HS), 30 LINUART_TX/PD5, 31 LINUART_RX/PD6, 32 TLI/PD7/TIM1_CH4
text: Ext. Interrupt

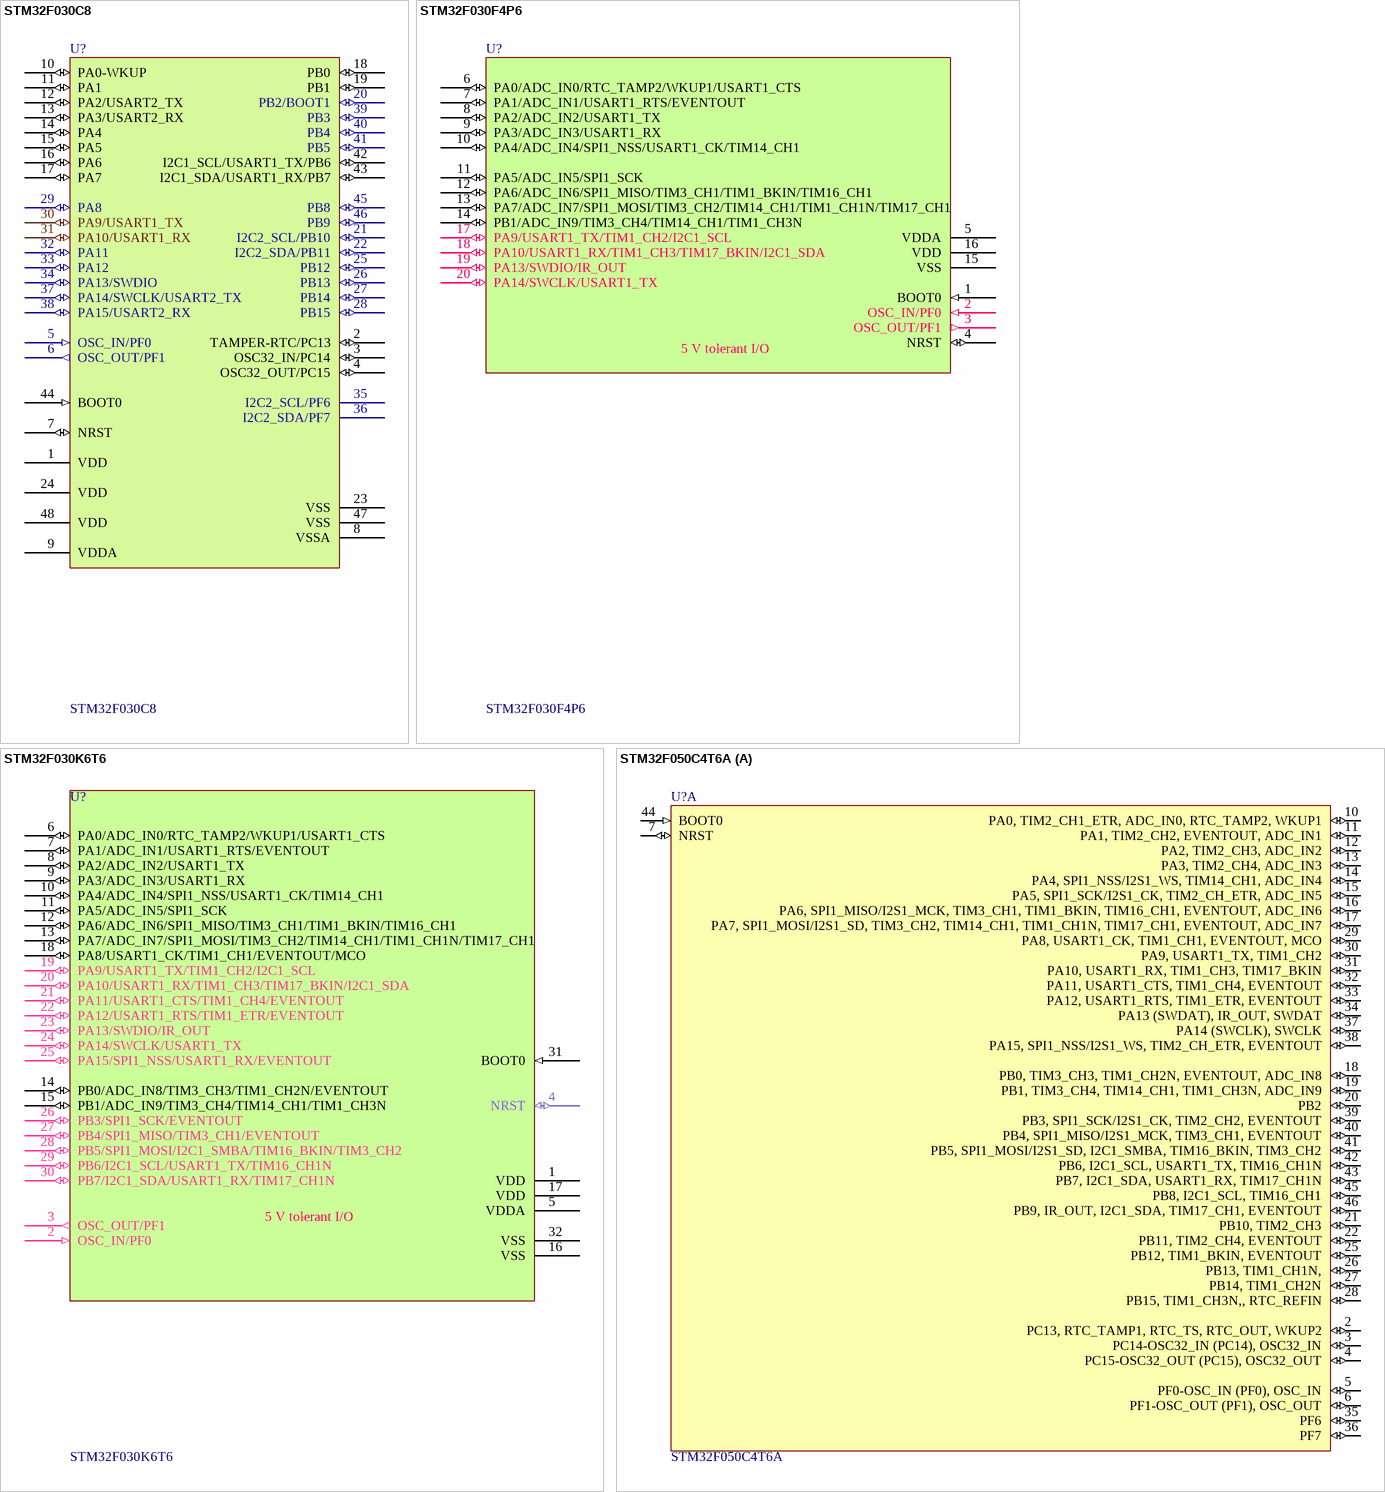
[diagram p14: symbols STM32F030C8 to STM32F050C4T6A]

## STM32F030C8
designator U?
ARM Cortex-M0 32-bit RISC core (48 MHz max), 64kB Flash, 8 kB Internal RAM, -40 to +85°C, 48-Pin LQFP, Tray; ComponentLink1URL: http://www.st.com/
footprint TQFP48_M (48-Pin Thin Quad Flat Pack 0.5 mm Pitch, IPC Low Density)
pins: 1 VDD (power), 2 TAMPER-RTC/PC13 (io), 3 OSC32_IN/PC14 (io), 4 OSC32_OUT/PC15 (io), 5 OSC_IN/PF0 (in), 6 OSC_OUT/PF1 (out), 7 NRST (io), 8 VSSA (power), 9 VDDA (power), 10 PA0-WKUP (io), 11 PA1 (io), 12 PA2/USART2_TX (io), 13 PA3/USART2_RX (io), 14 PA4 (io), 15 PA5 (io), 16 PA6 (io), 17 PA7 (io), 18 PB0 (io), 19 PB1 (io), 20 PB2/BOOT1 (io), 21 I2C2_SCL/PB10 (io), 22 I2C2_SDA/PB11 (io), 23 VSS (power), 24 VDD (power), 25 PB12 (io), 26 PB13 (io), 27 PB14 (io), 28 PB15 (io), 29 PA8 (io), 30 PA9/USART1_TX (io), 31 PA10/USART1_RX (io), 32 PA11 (io), 33 PA12 (io), 34 PA13/SWDIO (io), 35 I2C2_SCL/PF6 (power), 36 I2C2_SDA/PF7 (power), 37 PA14/SWCLK/USART2_TX (io), 38 PA15/USART2_RX (io), 39 PB3 (io), 40 PB4 (io), 41 PB5 (io), 42 I2C1_SCL/USART1_TX/PB6 (io), 43 I2C1_SDA/USART1_RX/PB7 (io), 44 BOOT0 (in), 45 PB8 (io), 46 PB9 (io), 47 VSS (power), 48 VDD (power)

## STM32F030F4P6
designator U?
ARM Microcontrollers - MCU Value-Line ARM MCU 16kB 48 MHz; Link: http://javanelec.com/productsDetails.aspx?id=32659
footprint TSSOP20 (TSSOP 20 Pin)
pins: 1 BOOT0 (in), 2 OSC_IN/PF0 (in), 3 OSC_OUT/PF1 (out), 4 NRST (io), 5 VDDA (power), 6 PA0/ADC_IN0/RTC_TAMP2/WKUP1/USART1_CTS (io), 7 PA1/ADC_IN1/USART1_RTS/EVENTOUT (io), 8 PA2/ADC_IN2/USART1_TX (io), 9 PA3/ADC_IN3/USART1_RX (io), 10 PA4/ADC_IN4/SPI1_NSS/USART1_CK/TIM14_CH1 (io), 11 PA5/ADC_IN5/SPI1_SCK (io), 12 PA6/ADC_IN6/SPI1_MISO/TIM3_CH1/TIM1_BKIN/TIM16_CH1 (io), 13 PA7/ADC_IN7/SPI1_MOSI/TIM3_CH2/TIM14_CH1/TIM1_CH1N/TIM17_CH1 (io), 14 PB1/ADC_IN9/TIM3_CH4/TIM14_CH1/TIM1_CH3N (io), 15 VSS (power), 16 VDD (power), 17 PA9/USART1_TX/TIM1_CH2/I2C1_SCL (io), 18 PA10/USART1_RX/TIM1_CH3/TIM17_BKIN/I2C1_SDA (io), 19 PA13/SWDIO/IR_OUT (io), 20 PA14/SWCLK/USART1_TX (io)
text: 5 V tolerant I/O

## STM32F030K6T6
designator U?
ARM Microcontrollers - MCU Value-Line ARM MCU 32kB 48 MHz; Link: http://javanelec.com/productsDetails.aspx?id=32660
footprint LQFP32 (32-Pin Thin Quad Flat Pack 0.8 mm Pitch)
pins: 1 VDD (power), 2 OSC_IN/PF0 (in), 3 OSC_OUT/PF1 (out), 4 NRST (io), 5 VDDA (power), 6 PA0/ADC_IN0/RTC_TAMP2/WKUP1/USART1_CTS (io), 7 PA1/ADC_IN1/USART1_RTS/EVENTOUT (io), 8 PA2/ADC_IN2/USART1_TX (io), 9 PA3/ADC_IN3/USART1_RX (io), 10 PA4/ADC_IN4/SPI1_NSS/USART1_CK/TIM14_CH1 (io), 11 PA5/ADC_IN5/SPI1_SCK (io), 12 PA6/ADC_IN6/SPI1_MISO/TIM3_CH1/TIM1_BKIN/TIM16_CH1 (io), 13 PA7/ADC_IN7/SPI1_MOSI/TIM3_CH2/TIM14_CH1/TIM1_CH1N/TIM17_CH1 (io), 14 PB0/ADC_IN8/TIM3_CH3/TIM1_CH2N/EVENTOUT (io), 15 PB1/ADC_IN9/TIM3_CH4/TIM14_CH1/TIM1_CH3N (io), 16 VSS (power), 17 VDD (power), 18 PA8/USART1_CK/TIM1_CH1/EVENTOUT/MCO (io), 19 PA9/USART1_TX/TIM1_CH2/I2C1_SCL (io), 20 PA10/USART1_RX/TIM1_CH3/TIM17_BKIN/I2C1_SDA (io), 21 PA11/USART1_CTS/TIM1_CH4/EVENTOUT (io), 22 PA12/USART1_RTS/TIM1_ETR/EVENTOUT (io), 23 PA13/SWDIO/IR_OUT (io), 24 PA14/SWCLK/USART1_TX (io), 25 PA15/SPI1_NSS/USART1_RX/EVENTOUT (io), 26 PB3/SPI1_SCK/EVENTOUT (io), 27 PB4/SPI1_MISO/TIM3_CH1/EVENTOUT (io), 28 PB5/SPI1_MOSI/I2C1_SMBA/TIM16_BKIN/TIM3_CH2 (io), 29 PB6/I2C1_SCL/USART1_TX/TIM16_CH1N (io), 30 PB7/I2C1_SDA/USART1_RX/TIM17_CH1N (io), 31 BOOT0 (in), 32 VSS (power)
text: 5 V tolerant I/O

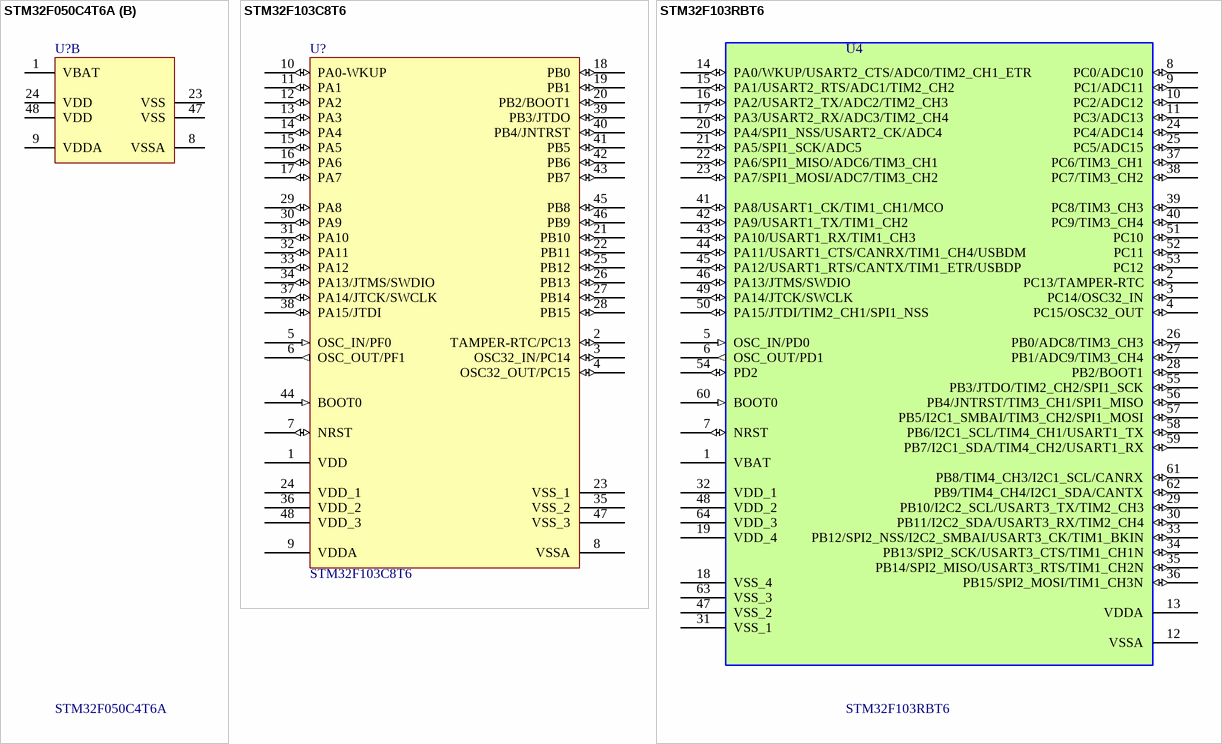
[diagram p15: symbols STM32F050C4T6A to STM32F103RBT6]

## STM32F050C4T6A
designator U?
ARM Cortex-M0 32-bit RISC core (48 MHz max), 16kB Flash, 4 kB Internal RAM, 39 High Current I/Os, -40 to +85°C, 48-Pin LQFP, Tray; 16-bit timers (IC/OC/PWM): 5x16-bit; 32-bit timer (IC/OC/PWM): 1x32-bit; Other timer functions: 2 x WDG, RTC, 24-bit down counter; A/D Converter: 10x12-bit; Serial Interface: 1xSPI;1xI2S;1xI2C;1xUSART(IrDA, ISO 7816); Supply Current(Icc) (Lowest power mode) typ (µA): 1.65; Supply Current(Icc) (Run mode (per Mhz)) typ (µA): 250; DatasheetVersion: rev2, Feb-2012; PackageVersion: rev13, Apr-2011; PackageReference: LQFP48; PackageDescription: 48-Pin Low-Profile Quad Flat Pack, 7 x 7 mm Body, 0.5 mm Pitch (LQFP48); ComponentLink1Description: Manufacturer URL; ComponentLink1URL: http://www.st.com/; ComponentLink2Description: Datasheet; ComponentLink2URL: http://www.st.com/internet/com/TECHNICAL_RESOURCES/TECHNICAL_LITERATURE/DATA_BRIEF/DM00047078.pdf; ComponentLink3Description: STM32F0 Web Page; ComponentLink3URL: http://www.st.com/internet/mcu/subclass/1588.jsp
footprint LQFP48_N (Thin QFP, 48-Leads, Body 7x7mm, Pitch 0.5mm, IPC Medium Density)
footprint LQFP48_L (Thin QFP, 48-Leads, Body 7x7mm, Pitch 0.5mm, IPC High Density)
footprint LQFP48_M (Thin QFP, 48-Leads, Body 7x7mm, Pitch 0.5mm, IPC Low Density)
part A pins: 2 PC13, RTC_TAMP1, RTC_TS, RTC_OUT, WKUP2 (io), 3 PC14-OSC32_IN (PC14), OSC32_IN (io), 4 PC15-OSC32_OUT (PC15), OSC32_OUT (io), 5 PF0-OSC_IN (PF0), OSC_IN (io), 6 PF1-OSC_OUT (PF1), OSC_OUT (io), 7 NRST (io), 10 PA0, TIM2_CH1_ETR, ADC_IN0, RTC_TAMP2, WKUP1 (io), 11 PA1, TIM2_CH2, EVENTOUT, ADC_IN1 (io), 12 PA2, TIM2_CH3, ADC_IN2 (io), 13 PA3, TIM2_CH4, ADC_IN3 (io), 14 PA4, SPI1_NSS/I2S1_WS, TIM14_CH1, ADC_IN4 (io), 15 PA5, SPI1_SCK/I2S1_CK, TIM2_CH_ETR, ADC_IN5 (io), 16 PA6, SPI1_MISO/I2S1_MCK, TIM3_CH1, TIM1_BKIN, TIM16_CH1, EVENTOUT, ADC_IN6 (io), 17 PA7, SPI1_MOSI/I2S1_SD, TIM3_CH2, TIM14_CH1, TIM1_CH1N, TIM17_CH1, EVENTOUT, ADC_IN7 (io), 18 PB0, TIM3_CH3, TIM1_CH2N, EVENTOUT, ADC_IN8 (io), 19 PB1, TIM3_CH4, TIM14_CH1, TIM1_CH3N, ADC_IN9 (io), 20 PB2 (io), 21 PB10, TIM2_CH3 (io), 22 PB11, TIM2_CH4, EVENTOUT (io), 25 PB12, TIM1_BKIN, EVENTOUT (io), 26 PB13, TIM1_CH1N, (io), 27 PB14, TIM1_CH2N (io), 28 PB15, TIM1_CH3N,, RTC_REFIN (io), 29 PA8, USART1_CK, TIM1_CH1, EVENTOUT, MCO (io), 30 PA9, USART1_TX, TIM1_CH2 (io), 31 PA10, USART1_RX, TIM1_CH3, TIM17_BKIN (io), 32 PA11, USART1_CTS, TIM1_CH4, EVENTOUT (io), 33 PA12, USART1_RTS, TIM1_ETR, EVENTOUT (io), 34 PA13 (SWDAT), IR_OUT, SWDAT (io), 35 PF6 (io), 36 PF7 (io), 37 PA14 (SWCLK), SWCLK (io), 38 PA15, SPI1_NSS/I2S1_WS, TIM2_CH_ETR, EVENTOUT (io), 39 PB3, SPI1_SCK/I2S1_CK, TIM2_CH2, EVENTOUT (io), 40 PB4, SPI1_MISO/I2S1_MCK, TIM3_CH1, EVENTOUT (io), 41 PB5, SPI1_MOSI/I2S1_SD, I2C1_SMBA, TIM16_BKIN, TIM3_CH2 (io), 42 PB6, I2C1_SCL, USART1_TX, TIM16_CH1N (io), 43 PB7, I2C1_SDA, USART1_RX, TIM17_CH1N (io), 44 BOOT0 (in), 45 PB8, I2C1_SCL, TIM16_CH1 (io), 46 PB9, IR_OUT, I2C1_SDA, TIM17_CH1, EVENTOUT (io)
part B pins: 1 VBAT (power), 8 VSSA (power), 9 VDDA (power), 23 VSS (power), 24 VDD (power), 47 VSS (power), 48 VDD (power)

## STM32F103C8T6
designator U?
STM32 ARM-based 32-bit MCU with 64 Kbytes Flash, 48-pin LQFP, Industrial Temperature; Published: 30-May-2008; DatasheetVersion: rev6, Mar-2008; PackageVersion: Mar-2008; PackageReference: LQFP48; Publisher: Altium Limited; PackageDescription: 48-Pin Low-Profile Quad Flat Pack, 7 x 7 mm Body, 0.5 mm Pitch (LQFP48); ComponentLink1Description: Manufacturer Link; ComponentLink1URL: www.st.com/stm32; ComponentLink2Description: Datasheet; ComponentLink2URL: http://www.st.com/stonline/products/literature/ds/13587.pdf
footprint LQFP48_N (Thin QFP, 48-Leads, Body 7x7mm, Pitch 0.5mm, IPC Medium Density)
footprint LQFP48_L (Thin QFP, 48-Leads, Body 7x7mm, Pitch 0.5mm, IPC High Density)
footprint LQFP48_M (Thin QFP, 48-Leads, Body 7x7mm, Pitch 0.5mm, IPC Low Density)
pins: 1 VDD (power), 2 TAMPER-RTC/PC13 (io), 3 OSC32_IN/PC14 (io), 4 OSC32_OUT/PC15 (io), 5 OSC_IN/PF0 (in), 6 OSC_OUT/PF1 (out), 7 NRST (io), 8 VSSA (power), 9 VDDA (power), 10 PA0-WKUP (io), 11 PA1 (io), 12 PA2 (io), 13 PA3 (io), 14 PA4 (io), 15 PA5 (io), 16 PA6 (io), 17 PA7 (io), 18 PB0 (io), 19 PB1 (io), 20 PB2/BOOT1 (io), 21 PB10 (io), 22 PB11 (io), 23 VSS_1 (power), 24 VDD_1 (power), 25 PB12 (io), 26 PB13 (io), 27 PB14 (io), 28 PB15 (io), 29 PA8 (io), 30 PA9 (io), 31 PA10 (io), 32 PA11 (io), 33 PA12 (io), 34 PA13/JTMS/SWDIO (io), 35 VSS_2 (power), 36 VDD_2 (power), 37 PA14/JTCK/SWCLK (io), 38 PA15/JTDI (io), 39 PB3/JTDO (io), 40 PB4/JNTRST (io), 41 PB5 (io), 42 PB6 (io), 43 PB7 (io), 44 BOOT0 (in), 45 PB8 (io), 46 PB9 (io), 47 VSS_3 (power), 48 VDD_3 (power)

## STM32F103RBT6
designator U4
STM32 ARM-based 32-bit MCU with 128 Kbytes Flash, 64-pin LQFP, Industrial Temperature; Published: 30-May-2008; DatasheetVersion: rev6, Mar-2008; PackageVersion: Mar-2008; PackageReference: LQFP64; Publisher: Altium Limited; PackageDescription: 64-Pin Low-Profile Quad Flat Pack, 10 x 10 mm Body, 0.5 mm Pitch (LQFP64); ComponentLink1Description: Manufacturer Link; ComponentLink1URL: www.st.com/stm32; ComponentLink2Description: Datasheet; ComponentLink2URL: http://www.st.com/stonline/products/literature/ds/13587.pdf
footprint LQFP64_M
pins: 1 VBAT (power), 2 PC13/TAMPER-RTC (io), 3 PC14/OSC32_IN (io), 4 PC15/OSC32_OUT (io), 5 OSC_IN/PD0 (in), 6 OSC_OUT/PD1 (out), 7 NRST (io), 8 PC0/ADC10 (io), 9 PC1/ADC11 (io), 10 PC2/ADC12 (io), 11 PC3/ADC13 (io), 12 VSSA (power), 13 VDDA (power), 14 PA0/WKUP/USART2_CTS/ADC0/TIM2_CH1_ETR (io), 15 PA1/USART2_RTS/ADC1/TIM2_CH2 (io), 16 PA2/USART2_TX/ADC2/TIM2_CH3 (io), 17 PA3/USART2_RX/ADC3/TIM2_CH4 (io), 18 VSS_4 (power), 19 VDD_4 (power), 20 PA4/SPI1_NSS/USART2_CK/ADC4 (io), 21 PA5/SPI1_SCK/ADC5 (io), 22 PA6/SPI1_MISO/ADC6/TIM3_CH1 (io), 23 PA7/SPI1_MOSI/ADC7/TIM3_CH2 (io), 24 PC4/ADC14 (io), 25 PC5/ADC15 (io), 26 PB0/ADC8/TIM3_CH3 (io), 27 PB1/ADC9/TIM3_CH4 (io), 28 PB2/BOOT1 (io), 29 PB10/I2C2_SCL/USART3_TX/TIM2_CH3 (io), 30 PB11/I2C2_SDA/USART3_RX/TIM2_CH4 (io), 31 VSS_1 (power), 32 VDD_1 (power), 33 PB12/SPI2_NSS/I2C2_SMBAI/USART3_CK/TIM1_BKIN (io), 34 PB13/SPI2_SCK/USART3_CTS/TIM1_CH1N (io), 35 PB14/SPI2_MISO/USART3_RTS/TIM1_CH2N (io), 36 PB15/SPI2_MOSI/TIM1_CH3N (io), 37 PC6/TIM3_CH1 (io), 38 PC7/TIM3_CH2 (io), 39 PC8/TIM3_CH3 (io), 40 PC9/TIM3_CH4 (io), 41 PA8/USART1_CK/TIM1_CH1/MCO (io), 42 PA9/USART1_TX/TIM1_CH2 (io), 43 PA10/USART1_RX/TIM1_CH3 (io), 44 PA11/USART1_CTS/CANRX/TIM1_CH4/USBDM (io), 45 PA12/USART1_RTS/CANTX/TIM1_ETR/USBDP (io), 46 PA13/JTMS/SWDIO (io), 47 VSS_2 (power), 48 VDD_2 (power), 49 PA14/JTCK/SWCLK (io), 50 PA15/JTDI/TIM2_CH1/SPI1_NSS (io), 51 PC10 (io), 52 PC11 (io), 53 PC12 (io), 54 PD2 (io), 55 PB3/JTDO/TIM2_CH2/SPI1_SCK (io), 56 PB4/JNTRST/TIM3_CH1/SPI1_MISO (io), 57 PB5/I2C1_SMBAI/TIM3_CH2/SPI1_MOSI (io), 58 PB6/I2C1_SCL/TIM4_CH1/USART1_TX (io), 59 PB7/I2C1_SDA/TIM4_CH2/USART1_RX (io), 60 BOOT0 (in), 61 PB8/TIM4_CH3/I2C1_SCL/CANRX (io), 62 PB9/TIM4_CH4/I2C1_SDA/CANTX (io), 63 VSS_3 (power), 64 VDD_3 (power)

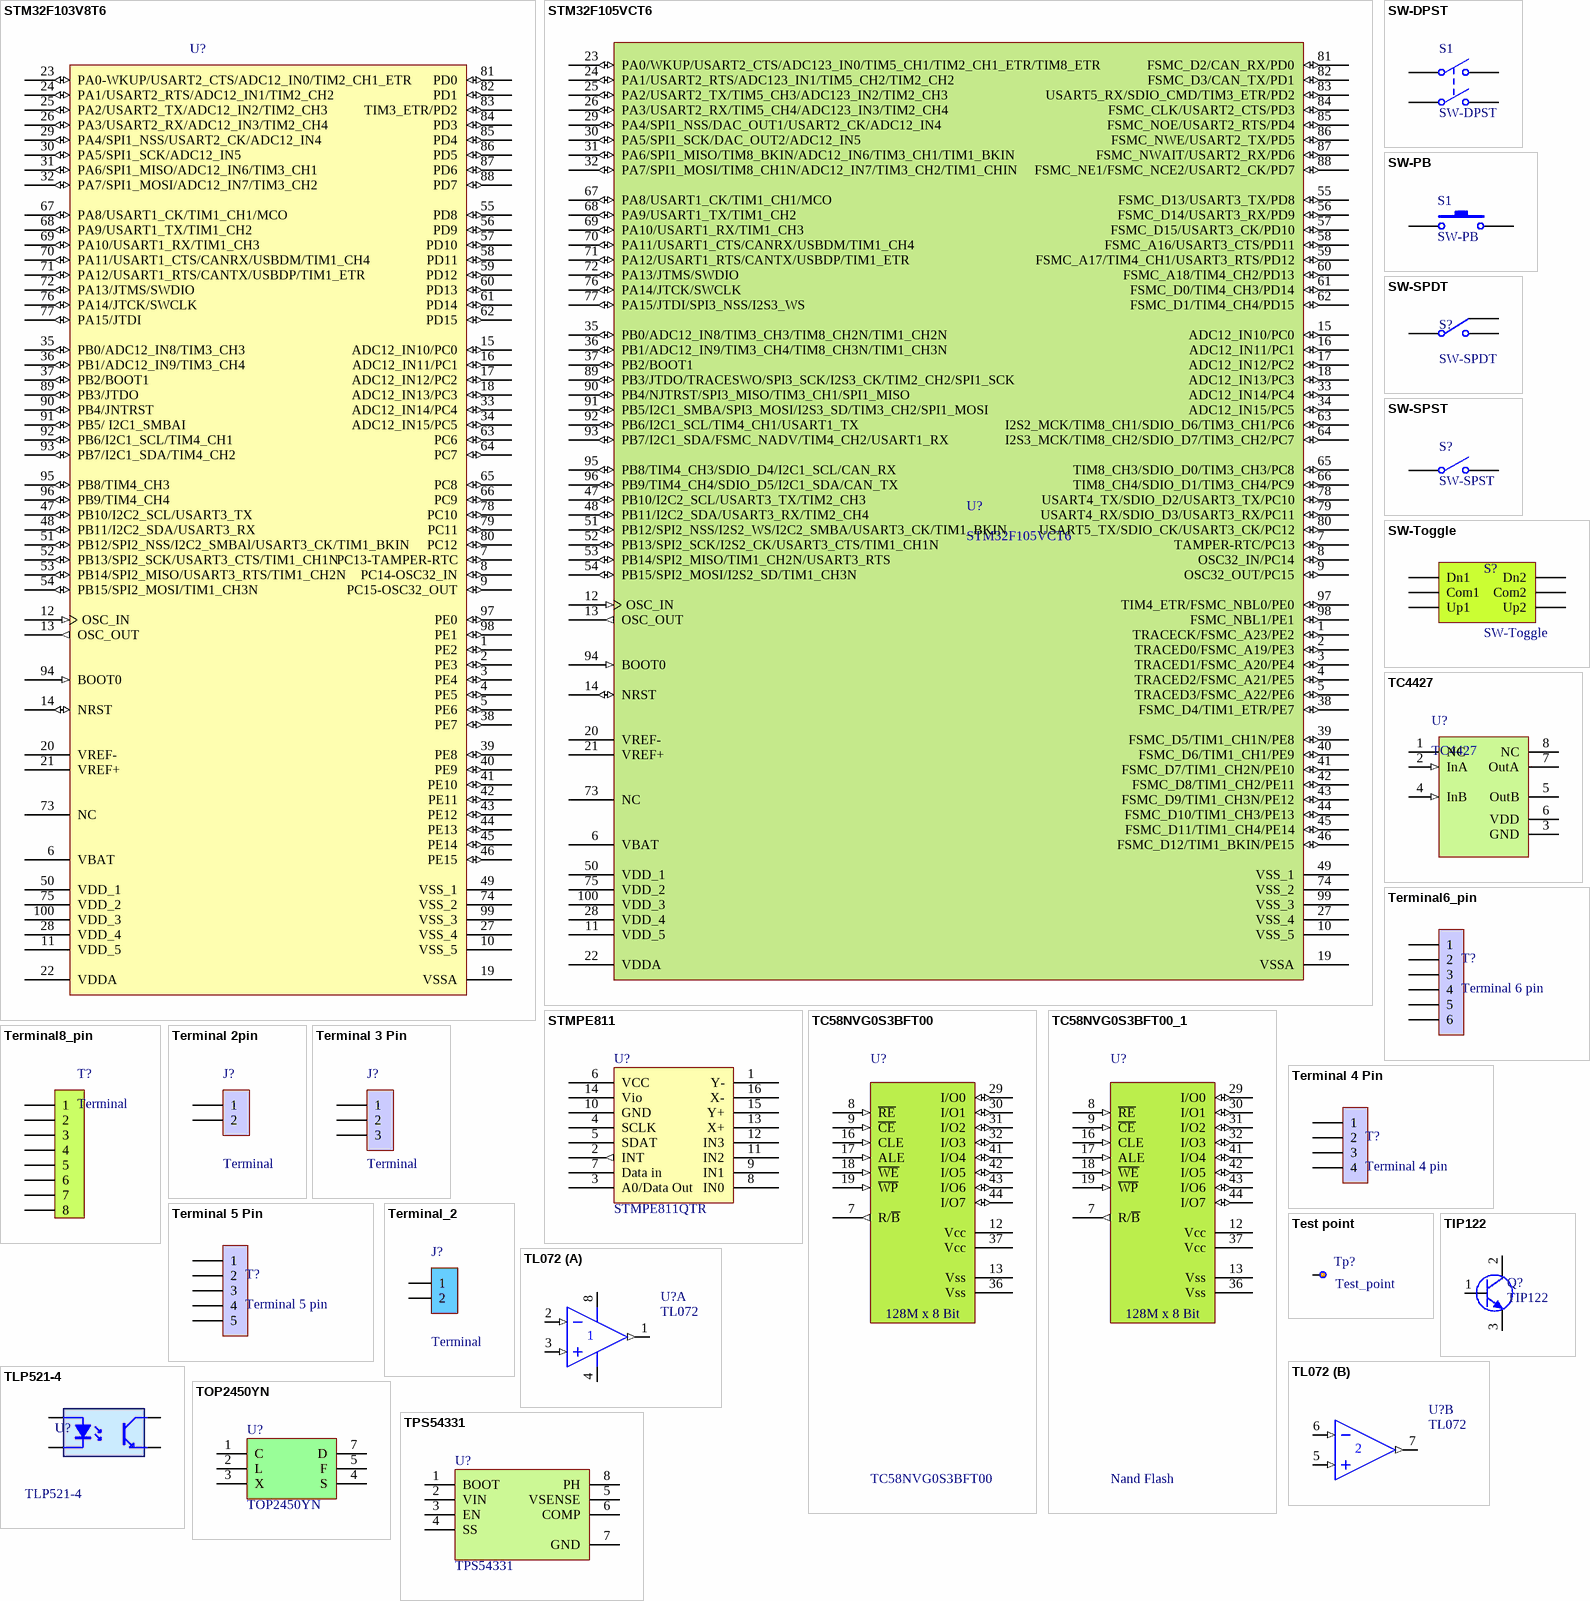
[diagram p16: symbols STM32F103V8T6 to TPS54331]

## STM32F103V8T6
designator U?
STM32 ARM-based 32-bit MCU with 64 Kbytes Flash, 100-pin LQFP, Industrial Temperature; Published: 30-May-2008; DatasheetVersion: rev6, Mar-2008; PackageVersion: Mar-2008; PackageReference: LQFP100; Publisher: Altium Limited; PackageDescription: 100-Pin Low-Profile Quad Flat Pack, 14 x 14 mm Body, 0.5 mm Pitch (LQFP100); ComponentLink1Description: Manufacturer Link; ComponentLink1URL: www.st.com/stm32; ComponentLink2Description: Datasheet; ComponentLink2URL: http://www.st.com/stonline/products/literature/ds/13587.pdf
footprint LQFP100_M (Thin QFP, 100-Leads, Body 14x14mm, Pitch 0.5mm, IPC Low Density)
pins: 1 PE2 (io), 2 PE3 (io), 3 PE4 (io), 4 PE5 (io), 5 PE6 (io), 6 VBAT (power), 7 PC13-TAMPER-RTC (io), 8 PC14-OSC32_IN (io), 9 PC15-OSC32_OUT (io), 10 VSS_5 (power), 11 VDD_5 (power), 12 OSC_IN (in), 13 OSC_OUT (out), 14 NRST (io), 15 ADC12_IN10/PC0 (io), 16 ADC12_IN11/PC1 (io), 17 ADC12_IN12/PC2 (io), 18 ADC12_IN13/PC3 (io), 19 VSSA (power), 20 VREF- (power), 21 VREF+ (power), 22 VDDA (power), 23 PA0-WKUP/USART2_CTS/ADC12_IN0/TIM2_CH1_ETR (io), 24 PA1/USART2_RTS/ADC12_IN1/TIM2_CH2 (io), 25 PA2/USART2_TX/ADC12_IN2/TIM2_CH3 (io), 26 PA3/USART2_RX/ADC12_IN3/TIM2_CH4 (io), 27 VSS_4 (power), 28 VDD_4 (power), 29 PA4/SPI1_NSS/USART2_CK/ADC12_IN4 (io), 30 PA5/SPI1_SCK/ADC12_IN5  (io), 31 PA6/SPI1_MISO/ADC12_IN6/TIM3_CH1 (io), 32 PA7/SPI1_MOSI/ADC12_IN7/TIM3_CH2 (io), 33 ADC12_IN14/PC4 (io), 34 ADC12_IN15/PC5 (io), 35 PB0/ADC12_IN8/TIM3_CH3 (io), 36 PB1/ADC12_IN9/TIM3_CH4 (io), 37 PB2/BOOT1 (io), 38 PE7 (io), 39 PE8 (io), 40 PE9 (io), 41 PE10 (io), 42 PE11 (io), 43 PE12 (io), 44 PE13 (io), 45 PE14 (io), 46 PE15 (io), 47 PB10/I2C2_SCL/USART3_TX (io), 48 PB11/I2C2_SDA/USART3_RX (io), 49 VSS_1 (power), 50 VDD_1 (power), 51 PB12/SPI2_NSS/I2C2_SMBAl/USART3_CK/TIM1_BKIN (io), 52 PB13/SPI2_SCK/USART3_CTS/TIM1_CH1N (io), 53 PB14/SPI2_MISO/USART3_RTS/TIM1_CH2N (io), 54 PB15/SPI2_MOSI/TIM1_CH3N (io), 55 PD8 (io), 56 PD9 (io), 57 PD10 (io), 58 PD11 (io), 59 PD12 (io), 60 PD13 (io), 61 PD14 (io), 62 PD15 (io), 63 PC6 (io), 64 PC7 (io), 65 PC8 (io), 66 PC9 (io), 67 PA8/USART1_CK/TIM1_CH1/MCO (io), 68 PA9/USART1_TX/TIM1_CH2 (io), 69 PA10/USART1_RX/TIM1_CH3 (io), 70 PA11/USART1_CTS/CANRX/USBDM/TIM1_CH4 (io), 71 PA12/USART1_RTS/CANTX/USBDP/TIM1_ETR (io), 72 PA13/JTMS/SWDIO (io), 73 NC, 74 VSS_2 (power), 75 VDD_2 (power), 76 PA14/JTCK/SWCLK (io), 77 PA15/JTDI (io), 78 PC10 (io), 79 PC11 (io), 80 PC12 (io), 81 PD0 (io), 82 PD1 (io), 83 TIM3_ETR/PD2 (io), 84 PD3 (io), 85 PD4 (io), 86 PD5 (io), 87 PD6 (io), 88 PD7 (io), 89 PB3/JTDO (io), 90 PB4/JNTRST (io), 91 PB5/ I2C1_SMBAI (io), 92 PB6/I2C1_SCL/TIM4_CH1 (io), 93 PB7/I2C1_SDA/TIM4_CH2 (io), 94 BOOT0 (in), 95 PB8/TIM4_CH3 (io), 96 PB9/TIM4_CH4 (io), 97 PE0 (io), 98 PE1 (io), 99 VSS_3 (power), 100 VDD_3 (power)

## STM32F105VCT6
designator U?
STM32 ARM-based 32-bit MCU with 64 Kbytes Flash, 100-pin LQFP, Industrial Temperature; Published: 30-May-2008; DatasheetVersion: rev6, Mar-2008; PackageVersion: Mar-2008; PackageReference: LQFP100; Publisher: Altium Limited; PackageDescription: 100-Pin Low-Profile Quad Flat Pack, 14 x 14 mm Body, 0.5 mm Pitch (LQFP100); ComponentLink1Description: Manufacturer Link; ComponentLink1URL: www.st.com/stm32; ComponentLink2Description: Datasheet; ComponentLink2URL: http://www.st.com/stonline/products/literature/ds/13587.pdf
footprint LQFP100_M (Thin QFP, 100-Leads, Body 14x14mm, Pitch 0.5mm, IPC Low Density)
pins: 1 TRACECK/FSMC_A23/PE2 (io), 2 TRACED0/FSMC_A19/PE3 (io), 3 TRACED1/FSMC_A20/PE4 (io), 4 TRACED2/FSMC_A21/PE5 (io), 5 TRACED3/FSMC_A22/PE6 (io), 6 VBAT (power), 7 TAMPER-RTC/PC13 (io), 8 OSC32_IN/PC14 (io), 9 OSC32_OUT/PC15 (io), 10 VSS_5 (power), 11 VDD_5 (power), 12 OSC_IN (in), 13 OSC_OUT (out), 14 NRST (io), 15 ADC12_IN10/PC0 (io), 16 ADC12_IN11/PC1 (io), 17 ADC12_IN12/PC2 (io), 18 ADC12_IN13/PC3 (io), 19 VSSA (power), 20 VREF- (power), 21 VREF+ (power), 22 VDDA (power), 23 PA0/WKUP/USART2_CTS/ADC123_IN0/TIM5_CH1/TIM2_CH1_ETR/TIM8_ETR (io), 24 PA1/USART2_RTS/ADC123_IN1/TIM5_CH2/TIM2_CH2 (io), 25 PA2/USART2_TX/TIM5_CH3/ADC123_IN2/TIM2_CH3 (io), 26 PA3/USART2_RX/TIM5_CH4/ADC123_IN3/TIM2_CH4 (io), 27 VSS_4 (power), 28 VDD_4 (power), 29 PA4/SPI1_NSS/DAC_OUT1/USART2_CK/ADC12_IN4 (io), 30 PA5/SPI1_SCK/DAC_OUT2/ADC12_IN5 (io), 31 PA6/SPI1_MISO/TIM8_BKIN/ADC12_IN6/TIM3_CH1/TIM1_BKIN (io), 32 PA7/SPI1_MOSI/TIM8_CH1N/ADC12_IN7/TIM3_CH2/TIM1_CHIN (io), 33 ADC12_IN14/PC4 (io), 34 ADC12_IN15/PC5 (io), 35 PB0/ADC12_IN8/TIM3_CH3/TIM8_CH2N/TIM1_CH2N (io), 36 PB1/ADC12_IN9/TIM3_CH4/TIM8_CH3N/TIM1_CH3N (io), 37 PB2/BOOT1 (io), 38 FSMC_D4/TIM1_ETR/PE7 (io), 39 FSMC_D5/TIM1_CH1N/PE8 (io), 40 FSMC_D6/TIM1_CH1/PE9 (io), 41 FSMC_D7/TIM1_CH2N/PE10 (io), 42 FSMC_D8/TIM1_CH2/PE11 (io), 43 FSMC_D9/TIM1_CH3N/PE12 (io), 44 FSMC_D10/TIM1_CH3/PE13 (io), 45 FSMC_D11/TIM1_CH4/PE14 (io), 46 FSMC_D12/TIM1_BKIN/PE15 (io), 47 PB10/I2C2_SCL/USART3_TX/TIM2_CH3 (io), 48 PB11/I2C2_SDA/USART3_RX/TIM2_CH4 (io), 49 VSS_1 (power), 50 VDD_1 (power), 51 PB12/SPI2_NSS/I2S2_WS/I2C2_SMBA/USART3_CK/TIM1_BKIN (io), 52 PB13/SPI2_SCK/I2S2_CK/USART3_CTS/TIM1_CH1N (io), 53 PB14/SPI2_MISO/TIM1_CH2N/USART3_RTS (io), 54 PB15/SPI2_MOSI/I2S2_SD/TIM1_CH3N (io), 55 FSMC_D13/USART3_TX/PD8 (io), 56 FSMC_D14/USART3_RX/PD9 (io), 57 FSMC_D15/USART3_CK/PD10 (io), 58 FSMC_A16/USART3_CTS/PD11 (io), 59 FSMC_A17/TIM4_CH1/USART3_RTS/PD12 (io), 60 FSMC_A18/TIM4_CH2/PD13 (io), 61 FSMC_D0/TIM4_CH3/PD14 (io), 62 FSMC_D1/TIM4_CH4/PD15 (io), 63 I2S2_MCK/TIM8_CH1/SDIO_D6/TIM3_CH1/PC6 (io), 64 I2S3_MCK/TIM8_CH2/SDIO_D7/TIM3_CH2/PC7 (io), 65 TIM8_CH3/SDIO_D0/TIM3_CH3/PC8 (io), 66 TIM8_CH4/SDIO_D1/TIM3_CH4/PC9 (io), 67 PA8/USART1_CK/TIM1_CH1/MCO (io), 68 PA9/USART1_TX/TIM1_CH2 (io), 69 PA10/USART1_RX/TIM1_CH3 (io), 70 PA11/USART1_CTS/CANRX/USBDM/TIM1_CH4 (io), 71 PA12/USART1_RTS/CANTX/USBDP/TIM1_ETR (io), 72 PA13/JTMS/SWDIO (io), 73 NC, 74 VSS_2 (power), 75 VDD_2 (power), 76 PA14/JTCK/SWCLK (io), 77 PA15/JTDI/SPI3_NSS/I2S3_WS (io), 78 USART4_TX/SDIO_D2/USART3_TX/PC10 (io), 79 USART4_RX/SDIO_D3/USART3_RX/PC11 (io), 80 USART5_TX/SDIO_CK/USART3_CK/PC12 (io), 81 FSMC_D2/CAN_RX/PD0 (io), 82 FSMC_D3/CAN_TX/PD1 (io), 83 USART5_RX/SDIO_CMD/TIM3_ETR/PD2 (io), 84 FSMC_CLK/USART2_CTS/PD3 (io), 85 FSMC_NOE/USART2_RTS/PD4 (io), 86 FSMC_NWE/USART2_TX/PD5 (io), 87 FSMC_NWAIT/USART2_RX/PD6 (io), 88 FSMC_NE1/FSMC_NCE2/USART2_CK/PD7 (io), 89 PB3/JTDO/TRACESWO/SPI3_SCK/I2S3_CK/TIM2_CH2/SPI1_SCK (io), 90 PB4/NJTRST/SPI3_MISO/TIM3_CH1/SPI1_MISO (io), 91 PB5/I2C1_SMBA/SPI3_MOSI/I2S3_SD/TIM3_CH2/SPI1_MOSI (io), 92 PB6/I2C1_SCL/TIM4_CH1/USART1_TX (io), 93 PB7/I2C1_SDA/FSMC_NADV/TIM4_CH2/USART1_RX (io), 94 BOOT0 (in), 95 PB8/TIM4_CH3/SDIO_D4/I2C1_SCL/CAN_RX (io), 96 PB9/TIM4_CH4/SDIO_D5/I2C1_SDA/CAN_TX (io), 97 TIM4_ETR/FSMC_NBL0/PE0 (io), 98 FSMC_NBL1/PE1 (io), 99 VSS_3 (power), 100 VDD_3 (power)

## STMPE811
designator U?, comment STMPE811QTR
footprint QFN16 (Footprint not found)
footprint QFN16(3X3)
pins: 1 Y-, 2 INT (out), 3 A0/Data Out, 4 SCLK, 5 SDAT, 6 VCC, 7 Data in, 8 IN0, 9 IN1, 10 GND, 11 IN2, 12 IN3, 13 X+, 14 Vio, 15 Y+, 16 X-

## SW-DPST
designator S1
Double-Pole, Single-Throw Switch; Published: 24-Mar-1999; LatestRevisionDate: 17-Jul-2002; LatestRevisionNote: Re-released for DXP Platform.; PackageReference: DPST-4; Publisher: Altium Limited
footprint DPST-4 (Double-Pole, Single-Throw Switch; 4 Leads)
pins: 1 COMMON1, 2 NO1, 3 COMMON2, 4 NO2

## SW-PB
designator S1
Switch; Published: 24-Mar-1999; LatestRevisionDate: 17-Jul-2002; LatestRevisionNote: Re-released for DXP Platform.; PackageReference: SPST-2; Publisher: Altium Limited
footprint Button_smd
footprint small Button
pins: 1, 2

## SW-SPDT
designator S?
Switch
footprint Switch3Pin
pins: 1 NO, 2 COM, 3 NC

## SW-SPST
designator S?
Single-Pole, Single-Throw Switch; Published: 24-Mar-1999; LatestRevisionDate: 17-Jul-2002; LatestRevisionNote: Re-released for DXP Platform.; PackageReference: SPST-2; Publisher: Altium Limited
footprint SPST-2
pins: 1 COMMON, 2 NO

## SW-Toggle
designator S?
Published: 24-Mar-1999; LatestRevisionDate: 17-Jul-2002; LatestRevisionNote: Re-released for DXP Platform.; PackageReference: DPST-4; Publisher: Altium Limited
pins: 1 Dn1, 2 Com1, 3 Up1, 3 Up2, 5 Com2, 6 Dn2

## TC58NVG0S3BFT00
designator U?
1 GBIT (128M ×8 BIT) CMOS NAND E2PROM(Toshiba)
footprint TSOP48 (Shrink Small Outline, Plastic, Thin; 48 Leads; Body Width 18.4 mm; Pitch 0.5 mm)
pins: 7 R/~{B} (out), 8 ~{RE} (in), 9 ~{CE} (in), 12 Vcc, 13 Vss, 16 CLE (in), 17 ALE (in), 18 ~{W}~{E} (in), 19 ~{W}~{P} (in), 29 I/O0 (io), 30 I/O1 (io), 31 I/O2 (io), 32 I/O3 (io), 36 Vss, 37 Vcc, 41 I/O4 (io), 42 I/O5 (io), 43 I/O6 (io), 44 I/O7 (io)
text: 128M x 8 Bit

## TC58NVG0S3BFT00_1
designator U?, comment Nand Flash
1 GBIT (128M ×8 BIT) CMOS NAND E2PROM(Toshiba)
footprint TSOP48 (Shrink Small Outline, Plastic, Thin; 48 Leads; Body Width 18.4 mm; Pitch 0.5 mm)
pins: 7 R/~{B} (out), 8 ~{RE} (in), 9 ~{CE} (in), 12 Vcc, 13 Vss, 16 CLE (in), 17 ALE (in), 18 ~{W}~{E} (in), 19 ~{W}~{P} (in), 29 I/O0 (io), 30 I/O1 (io), 31 I/O2 (io), 32 I/O3 (io), 36 Vss, 37 Vcc, 41 I/O4 (io), 42 I/O5 (io), 43 I/O6 (io), 44 I/O7 (io)
text: 128M x 8 Bit

## TC4427
designator U?
1.5A DUAL HIGH-SPEED POWER MOSFET DRIVERS
footprint SO8
pins: 1 NC, 2 InA (in), 3 GND (power), 4 InB (in), 5 OutB (power), 6 VDD, 7 OutA, 8 NC (power)

## Terminal6_pin
designator T?, comment Terminal 6 pin
footprint Terminal6 (Terminal 6 pin)
footprint Terminal_6 (Terminal 6 pin)
pins: 1, 2, 3, 4, 5, 6

## Terminal8_pin
designator T?, comment Terminal
footprint Terminal8 (Terminal 8 pin)
pins: 1, 2, 3, 4, 5, 6, 7, 8

## Terminal 2pin
designator J?, comment Terminal
power 2pin
footprint TERMINAL2
footprint PLUG2
pins: 1, 2

## Terminal 3 Pin
designator J?, comment Terminal
power 3 pin terminal
footprint TERMINAL3
footprint Terminal3Pin
footprint Terminal3pin_
pins: 1, 2, 3

## Terminal 4 Pin
designator T?, comment Terminal 4 pin
footprint Terminal4 (Terminal 4 pin)
footprint Terminal_4 (Terminal 4 pin)
pins: 1, 2, 3, 4

## Terminal 5 Pin
designator T?, comment Terminal 5 pin
footprint Terminal5 (Terminal 5 pin)
pins: 1, 2, 3, 4, 5

## Terminal_2
designator J?, comment Terminal
power 2 pin terminal
footprint Terminal2Pin
footprint 2PinTerminal
pins: 1, 2

## Test point
designator Tp?, comment Test_point
Test point; Published: 8-Jun-2000; LatestRevisionDate: 17-Jul-2002; LatestRevisionNote: Re-released for DXP Platform.; PackageReference: AXIAL-0.3; Publisher: Altium Limited
footprint TestPoint
pins: 1

## TIP122
designator Q?
NPN Epitaxial Darlington Transistor 5A
footprint TO-220 (With Heatsink)
pins: 1 B, 2 C, 3 E

## TL072
designator U?
LOW  NOISE  JFET  INPUT  OPERATIONAL  AMPLIFIERS
footprint SO8
part A pins: 1 OUT (out), 2 IN- (in), 3 IN+ (in), 4 V- (power), 8 V+ (power)
part B pins: 5 IN+ (in), 6 IN- (in), 7 OUT (out)

## TLP521-4
designator U?
4 consist of a photo-transistor optically  coupled
pins: 1 A "Anode", 2 K "Cathode", 3 E "Emitter", 4 C "Collector"

## TOP2450YN
designator U?
Integrated Off-line Switcher
pins: 1 C, 2 L, 3 X (power), 4 S, 5 F (oe), 7 D (oe)

## TPS54331
designator U?
DC/DC Switching Regulators 2A,28V,1MHz Step Down SWIFT DC/D;Output Voltage:0.8 V to 25 V; Link: http://javanelec.com/productsDetails.aspx?id=33786
footprint SO8
pins: 1 BOOT, 2 VIN, 3 EN, 4 SS (power), 5 VSENSE, 6 COMP (power), 7 GND, 8 PH (oc)

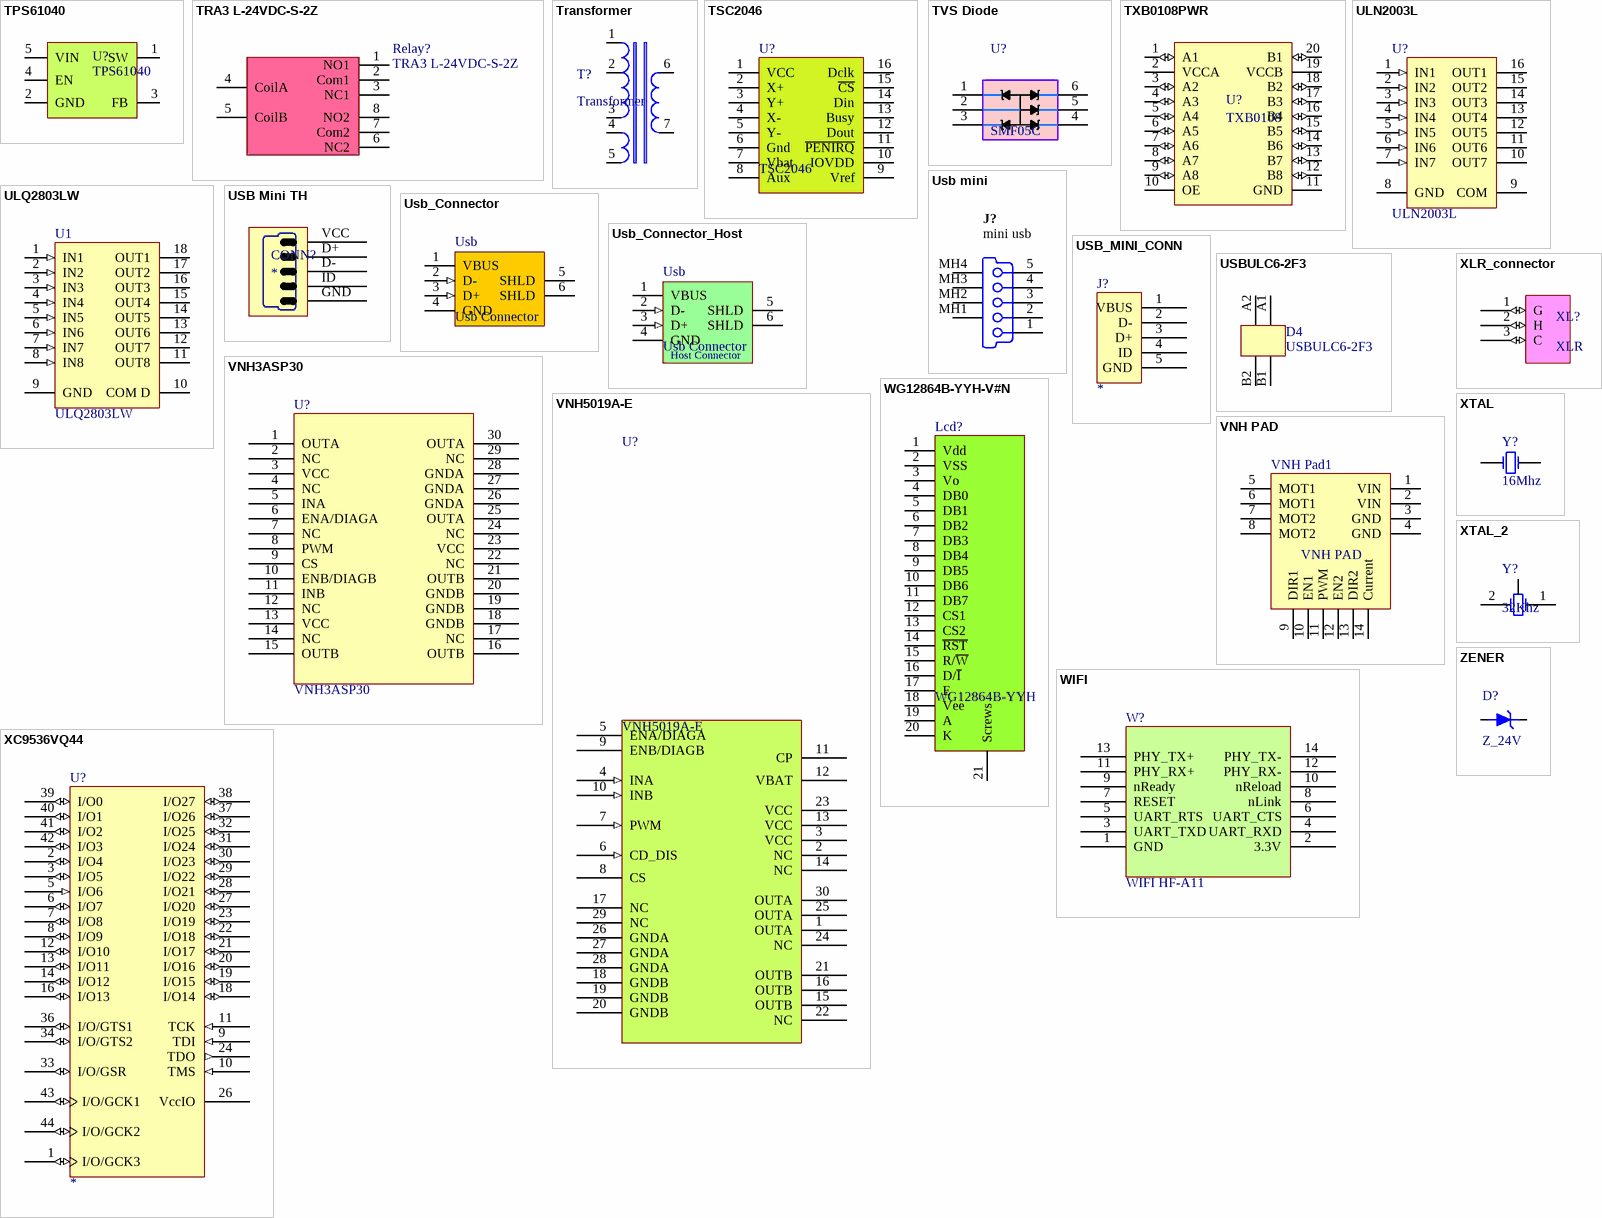
[diagram p17: symbols TPS61040 to ZENER]

## TPS61040
designator U?
LOW POWER DC/DC BOOST CONVERTER IN SOT-23 PACKAGE
footprint SOT23-5
pins: 1 SW, 2 GND, 3 FB, 4 EN, 5 VIN

## TRA3 L-24VDC-S-2Z
designator Relay?
footprint RELAY_24
pins: 1 NO1 (power) "Normally Opened", 2 Com1 (power) "Common A", 3 NC1 (power) "Normally Closed", 4 CoilA "Coil A", 5 CoilB "Coil A", 6 NC2 (power) "Normally Closed", 7 Com2 (power) "Common A", 8 NO2 (power) "Normally Opened"

## Transformer
designator T?
Transformer for Switching
pins: 1, 2, 3, 4, 5, 6, 7

## TSC2046
designator U?
Touch Screen Controller
footprint TSSOP 16 (16-pin, 4.40 mm body, 0.65 mm pitch)
pins: 1 VCC, 2 X+, 3 Y+, 4 X-, 5 Y-, 6 Gnd, 7 Vbat, 8 Aux, 9 Vref, 10 IOVDD, 11 ~{PENIRQ}, 12 Dout, 13 Busy, 14 Din, 15 ~{CS}, 16 Dclk

## TVS Diode
designator U?, comment SMF05C
TVS Diode Array  For ESD and Latch-Up Protection
footprint SC706
pins: 1 L1 "Speed", 2 Gnd, 3 L3 "Speed", 4 L4 "Speed", 5 L5 "Speed", 6 L6 "Speed"

## TXB0108PWR
designator U?, comment TXB0108
Translation - Voltage Levels 8-Bit Bi-directional; Manufacturer: Texas Instruments; Manufacturer Part Number: TXB0108PWR; Propagation Delay Time: 9.5 ns; Supply Voltage - Max: 3.6 V, 5.5 V; Supply Voltage - Min: 1.2 V, 1.65 V; Supplier 1: Mouser; RoHS: RoHS Compliant; Category: Translation - Voltage Levels; Stock 1: 31241; Pricing 1: 1=1.84, 10=1.66, 25=1.44, 50=1.35, 100=1.34, 250=1.18, 500=1.01, 750=0.904, 1000=0.832, 2000=0.832 (EUR); Package/Case: TSSOP-20; Packaging: Reel; Series: TXB0108; Brand: Texas Instruments; Mounting Style: SMD/SMT; Maximum Operating Temperature: + 85 C; Minimum Operating Temperature: - 40 C; Product Category: Logic - Voltage Level Translation; Standard Pack Qty: 2000; RoHS - Mouser: Y; Minimum Order Quantity: 1; Reeling: True; ComponentLink1URL: http://www.mouser.com/ds/2/405/sces643e-127095.pdf; ComponentLink1Description: http://www.mouser.com/ds/2/405/sces643e-127095.pdf
footprint TSSOP20 (TSSOP 20 Pin)
pins: 1 A1 (io), 2 VCCA (power), 3 A2 (io), 4 A3 (io), 5 A4 (io), 6 A5 (io), 7 A6 (io), 8 A7 (io), 9 A8 (io), 10 OE, 11 GND (power), 12 B8 (io), 13 B7 (io), 14 B6 (io), 15 B5 (io), 16 B4 (io), 17 B3 (io), 18 B2 (io), 19 VCCB (power), 20 B1 (io)

## ULN2003L
designator U?
High-Voltage, High-Current Darlington Array; Published: 13-Oct-2000; LatestRevisionDate: 13-Apr-2006; LatestRevisionNote: IPC-7351 Footprint Added.; DatasheetVersion: 1998; PackageReference: L16; Publisher: Altium Limited; PackageDescription: 16-Pin Small Outline Integrated Circuit 1.27 mm Pitch; Code_JEDEC: MS-012-AC; Code_IPC: SOIC127P600-16; ComponentLink1Description: Manufacturer Link; ComponentLink1URL: http://www.allegromicro.com/
footprint SO16
pins: 1 IN1 (in), 2 IN2 (in), 3 IN3 (in), 4 IN4 (in), 5 IN5 (in), 6 IN6 (in), 7 IN7 (in), 8 GND (power), 9 COM, 10 OUT7 (oc), 11 OUT6 (oc), 12 OUT5 (oc), 13 OUT4 (oc), 14 OUT3 (oc), 15 OUT2 (oc), 16 OUT1 (oc)

## ULQ2803LW
designator U1
High-Voltage, High-Current Darlington Array; Published: 13-Oct-2000; LatestRevisionDate: 13-Apr-2006; LatestRevisionNote: IPC-7351 Footprint Added.; DatasheetVersion: 1999; PackageReference: LW18; Publisher: Altium Limited; PackageDescription: 18-Pin Small Outline Integrated Circuit 1.27 mm Pitch; Code_JEDEC: MS-013-AB; ComponentLink1Description: Manufacturer Link; ComponentLink1URL: http://www.allegromicro.com/
footprint SO18 (SOIC, 18-Leads, Body 11.6x7.5mm, Pitch 1.27mm, IPC Low Density)
pins: 1 IN1 (in), 2 IN2 (in), 3 IN3 (in), 4 IN4 (in), 5 IN5 (in), 6 IN6 (in), 7 IN7 (in), 8 IN8 (in), 9 GND (power), 10 COM D, 11 OUT8 (oc), 12 OUT7 (oc), 13 OUT6 (oc), 14 OUT5 (oc), 15 OUT4 (oc), 16 OUT3 (oc), 17 OUT2 (oc), 18 OUT1 (oc)

## Usb mini
designator J?, comment mini usb
USB On-The-Go (OTG) Mini-B Receptacle, Right Angle, SMT, 0.80mm (.031") Pitch, Solder Tabs with Back Cover, Recessed Type; Max Current: mA; Connector type: Right Angle; Mounting Technology: Surface Mount; Status: Unreleased; Category: Connector
footprint 481900001
pins: 1, 2, 3, 4, 5, MH1, MH2, MH3, MH4

## USB Mini TH
designator CONN?
footprint USB Mini TH (USB Mini MOLEX 548190519)
pins: D+ 2, D- 3, GND 5, ID 4, VCC

## Usb_Connector
designator Usb, comment Usb Connector
On Board Usb Connector; Published: 15-Apr-2002; DatasheetVersion: Jul-1999; PackageVersion: Jul-1999; PackageReference: 314D-03; Publisher: Altium Limited; PackageDescription: TO, Thru-Hole, Vertical, Heatsink Mounted; 5 In-Line Leads; Pitch 1.70 mm; Code_JEDEC: TS-001-AA; ComponentLink1Description: Manufacturer Link; ComponentLink1URL: http://www.onsemi.com/site/products/taxonomy/0,4438,503,00.html; ComponentLink2Description: Datasheet; ComponentLink2URL: http://www.onsemi.com/pub/Collateral/LM2576-D.PDF
footprint Usb Connector
pins: 1 VBUS (power), 2 D- (in), 3 D+ (in), 4 GND (power), 5 SHLD (power), 6 SHLD (power)